# Altium integrated library Altera MAX 3000A.IntLib: 136 symbols (part 1 of 10)
Pins are listed as number, name and electrical type; pins without a type are passive.

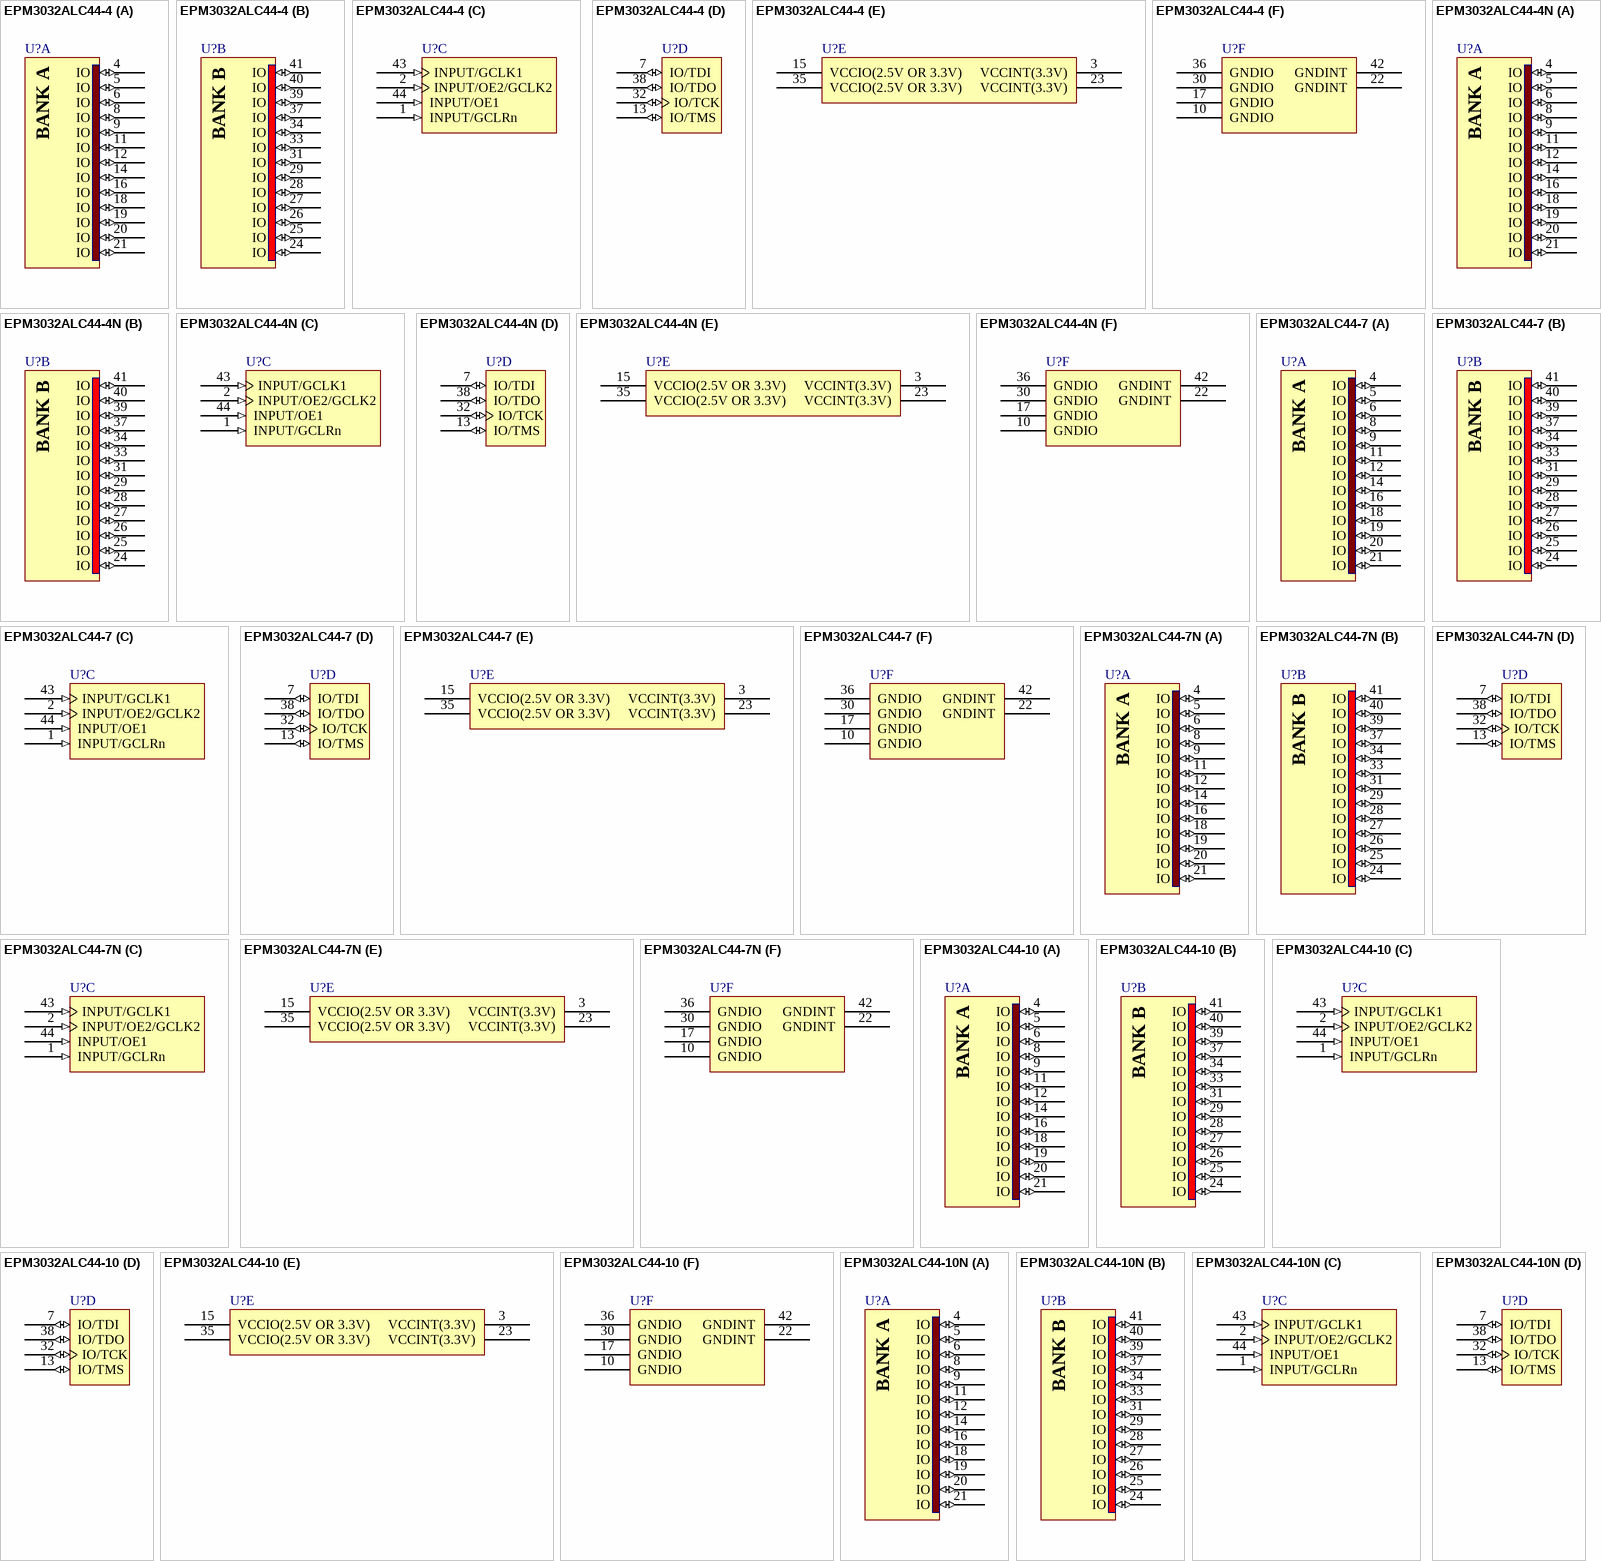
[diagram p0: symbols EPM3032ALC44-4 to EPM3032ALC44-10N]

## EPM3032ALC44-4
designator U?
MAX 3032A 3.3V CPLD, 34 IOs, 44-Pin PLCC, Commercial Temperature, Speed Grade 4; Published: 23-Sep-2002; LatestRevisionDate: 13-Apr-2006; LatestRevisionNote: IPC-7351 Footprint Added.; DatasheetVersion: ver3.5, Jun-2006; PackageVersion: ver14.3, Jul-2006; PackageReference: PLCC44; Publisher: Altium Limited; PackageDescription: 44-Pin Plastic J-Lead Chip Carrier (PLCC44); Supplier 1: Digi-Key; Supplier Part Number 1: 544-1967-ND; Code_JEDEC: MS-018-AC; Code_IPC: PLCC-44; ComponentLink1Description: Manufacturer Link; ComponentLink1URL: http://www.altera.com/products/devices/max3k/m3k-index.html; ComponentLink2Description: Datasheet; ComponentLink2URL: http://www.altera.com/literature/ds/m3000a.pdf; ComponentLink3Description: Packaging Specification; ComponentLink3URL: http://www.altera.com/literature/ds/dspkg.pdf
footprint PLCC44_N (Leaded Chip Carrier, 44-Leads, Body 16.6x16.6mm, Pitch 1.27mm, IPC Medium Density)
footprint PLCC44_L (Leaded Chip Carrier, 44-Leads, Body 16.6x16.6mm, Pitch 1.27mm, IPC High Density)
footprint PLCC44_M (Leaded Chip Carrier, 44-Leads, Body 16.6x16.6mm, Pitch 1.27mm, IPC Low Density)
3D model EPM3032A-PLCC44 (44-Pin Plastic J-Lead Chip Carrier (PLCC44))
signal-integrity model max3ka (MAX 3000A)
part A pins: 4 IO (io), 5 IO (io), 6 IO (io), 8 IO (io), 9 IO (io), 11 IO (io), 12 IO (io), 14 IO (io), 16 IO (io), 18 IO (io), 19 IO (io), 20 IO (io), 21 IO (io)
part B pins: 24 IO (io), 25 IO (io), 26 IO (io), 27 IO (io), 28 IO (io), 29 IO (io), 31 IO (io), 33 IO (io), 34 IO (io), 37 IO (io), 39 IO (io), 40 IO (io), 41 IO (io)
part C pins: 1 INPUT/GCLRn (in), 2 INPUT/OE2/GCLK2 (in), 43 INPUT/GCLK1 (in), 44 INPUT/OE1 (in)
part D pins: 7 IO/TDI (io), 13 IO/TMS (io), 32 IO/TCK (io), 38 IO/TDO (io)
part E pins: 3 VCCINT(3.3V) (power), 15 VCCIO(2.5V OR 3.3V) (power), 23 VCCINT(3.3V) (power), 35 VCCIO(2.5V OR 3.3V) (power)
part F pins: 10 GNDIO (power), 17 GNDIO (power), 22 GNDINT (power), 30 GNDIO (power), 36 GNDIO (power), 42 GNDINT (power)
part A text: BANK A
part B text: BANK B

## EPM3032ALC44-4N
designator U?
MAX 3032A 3.3V CPLD, 34 IOs, 44-Pin PLCC, Commercial Temperature, Speed Grade 4, Pb-Free; Published: 18-Aug-2005; LatestRevisionDate: 13-Apr-2006; LatestRevisionNote: IPC-7351 Footprint Added.; DatasheetVersion: ver3.5, Jun-2006; PackageVersion: ver14.3, Jul-2006; PackageReference: PLCC44; Publisher: Altium Limited; PackageDescription: 44-Pin Plastic J-Lead Chip Carrier (PLCC44); Supplier 1: Digi-Key; Supplier Part Number 1: EPM3032ALC44-4N-ND; Code_JEDEC: MS-018-AC; Code_IPC: PLCC-44; ComponentLink1Description: Manufacturer Link; ComponentLink1URL: http://www.altera.com/products/devices/max3k/m3k-index.html; ComponentLink2Description: Datasheet; ComponentLink2URL: http://www.altera.com/literature/ds/m3000a.pdf; ComponentLink3Description: Packaging Specification; ComponentLink3URL: http://www.altera.com/literature/ds/dspkg.pdf
footprint PLCC44_N (Leaded Chip Carrier, 44-Leads, Body 16.6x16.6mm, Pitch 1.27mm, IPC Medium Density)
footprint PLCC44_L (Leaded Chip Carrier, 44-Leads, Body 16.6x16.6mm, Pitch 1.27mm, IPC High Density)
footprint PLCC44_M (Leaded Chip Carrier, 44-Leads, Body 16.6x16.6mm, Pitch 1.27mm, IPC Low Density)
3D model EPM3032A-PLCC44 (44-Pin Plastic J-Lead Chip Carrier (PLCC44))
signal-integrity model max3ka (MAX 3000A)
part A pins: 4 IO (io), 5 IO (io), 6 IO (io), 8 IO (io), 9 IO (io), 11 IO (io), 12 IO (io), 14 IO (io), 16 IO (io), 18 IO (io), 19 IO (io), 20 IO (io), 21 IO (io)
part B pins: 24 IO (io), 25 IO (io), 26 IO (io), 27 IO (io), 28 IO (io), 29 IO (io), 31 IO (io), 33 IO (io), 34 IO (io), 37 IO (io), 39 IO (io), 40 IO (io), 41 IO (io)
part C pins: 1 INPUT/GCLRn (in), 2 INPUT/OE2/GCLK2 (in), 43 INPUT/GCLK1 (in), 44 INPUT/OE1 (in)
part D pins: 7 IO/TDI (io), 13 IO/TMS (io), 32 IO/TCK (io), 38 IO/TDO (io)
part E pins: 3 VCCINT(3.3V) (power), 15 VCCIO(2.5V OR 3.3V) (power), 23 VCCINT(3.3V) (power), 35 VCCIO(2.5V OR 3.3V) (power)
part F pins: 10 GNDIO (power), 17 GNDIO (power), 22 GNDINT (power), 30 GNDIO (power), 36 GNDIO (power), 42 GNDINT (power)
part A text: BANK A
part B text: BANK B

## EPM3032ALC44-7
designator U?
MAX 3032A 3.3V CPLD, 34 IOs, 44-Pin PLCC, Commercial Temperature, Speed Grade 7; Published: 23-Sep-2002; LatestRevisionDate: 13-Apr-2006; LatestRevisionNote: IPC-7351 Footprint Added.; DatasheetVersion: ver3.5, Jun-2006; PackageVersion: ver14.3, Jul-2006; PackageReference: PLCC44; Publisher: Altium Limited; PackageDescription: 44-Pin Plastic J-Lead Chip Carrier (PLCC44); Supplier 1: Digi-Key; Supplier Part Number 1: EPM3032ALC44-7-ND; Code_JEDEC: MS-018-AC; Code_IPC: PLCC-44; ComponentLink1Description: Manufacturer Link; ComponentLink1URL: http://www.altera.com/products/devices/max3k/m3k-index.html; ComponentLink2Description: Datasheet; ComponentLink2URL: http://www.altera.com/literature/ds/m3000a.pdf; ComponentLink3Description: Packaging Specification; ComponentLink3URL: http://www.altera.com/literature/ds/dspkg.pdf
footprint PLCC44_N (Leaded Chip Carrier, 44-Leads, Body 16.6x16.6mm, Pitch 1.27mm, IPC Medium Density)
footprint PLCC44_L (Leaded Chip Carrier, 44-Leads, Body 16.6x16.6mm, Pitch 1.27mm, IPC High Density)
footprint PLCC44_M (Leaded Chip Carrier, 44-Leads, Body 16.6x16.6mm, Pitch 1.27mm, IPC Low Density)
3D model EPM3032A-PLCC44 (44-Pin Plastic J-Lead Chip Carrier (PLCC44))
signal-integrity model max3ka (MAX 3000A)
part A pins: 4 IO (io), 5 IO (io), 6 IO (io), 8 IO (io), 9 IO (io), 11 IO (io), 12 IO (io), 14 IO (io), 16 IO (io), 18 IO (io), 19 IO (io), 20 IO (io), 21 IO (io)
part B pins: 24 IO (io), 25 IO (io), 26 IO (io), 27 IO (io), 28 IO (io), 29 IO (io), 31 IO (io), 33 IO (io), 34 IO (io), 37 IO (io), 39 IO (io), 40 IO (io), 41 IO (io)
part C pins: 1 INPUT/GCLRn (in), 2 INPUT/OE2/GCLK2 (in), 43 INPUT/GCLK1 (in), 44 INPUT/OE1 (in)
part D pins: 7 IO/TDI (io), 13 IO/TMS (io), 32 IO/TCK (io), 38 IO/TDO (io)
part E pins: 3 VCCINT(3.3V) (power), 15 VCCIO(2.5V OR 3.3V) (power), 23 VCCINT(3.3V) (power), 35 VCCIO(2.5V OR 3.3V) (power)
part F pins: 10 GNDIO (power), 17 GNDIO (power), 22 GNDINT (power), 30 GNDIO (power), 36 GNDIO (power), 42 GNDINT (power)
part A text: BANK A
part B text: BANK B

## EPM3032ALC44-7N
designator U?
MAX 3032A 3.3V CPLD, 34 IOs, 44-Pin PLCC, Commercial Temperature, Speed Grade 7, Pb-Free; Published: 18-Aug-2005; LatestRevisionDate: 13-Apr-2006; LatestRevisionNote: IPC-7351 Footprint Added.; DatasheetVersion: ver3.5, Jun-2006; PackageVersion: ver14.3, Jul-2006; PackageReference: PLCC44; Publisher: Altium Limited; PackageDescription: 44-Pin Plastic J-Lead Chip Carrier (PLCC44); Supplier 1: Digi-Key; Supplier Part Number 1: EPM3032ALC44-7N-ND; Code_JEDEC: MS-018-AC; Code_IPC: PLCC-44; ComponentLink1Description: Manufacturer Link; ComponentLink1URL: http://www.altera.com/products/devices/max3k/m3k-index.html; ComponentLink2Description: Datasheet; ComponentLink2URL: http://www.altera.com/literature/ds/m3000a.pdf; ComponentLink3Description: Packaging Specification; ComponentLink3URL: http://www.altera.com/literature/ds/dspkg.pdf
footprint PLCC44_N (Leaded Chip Carrier, 44-Leads, Body 16.6x16.6mm, Pitch 1.27mm, IPC Medium Density)
footprint PLCC44_L (Leaded Chip Carrier, 44-Leads, Body 16.6x16.6mm, Pitch 1.27mm, IPC High Density)
footprint PLCC44_M (Leaded Chip Carrier, 44-Leads, Body 16.6x16.6mm, Pitch 1.27mm, IPC Low Density)
3D model EPM3032A-PLCC44 (44-Pin Plastic J-Lead Chip Carrier (PLCC44))
signal-integrity model max3ka (MAX 3000A)
part A pins: 4 IO (io), 5 IO (io), 6 IO (io), 8 IO (io), 9 IO (io), 11 IO (io), 12 IO (io), 14 IO (io), 16 IO (io), 18 IO (io), 19 IO (io), 20 IO (io), 21 IO (io)
part B pins: 24 IO (io), 25 IO (io), 26 IO (io), 27 IO (io), 28 IO (io), 29 IO (io), 31 IO (io), 33 IO (io), 34 IO (io), 37 IO (io), 39 IO (io), 40 IO (io), 41 IO (io)
part C pins: 1 INPUT/GCLRn (in), 2 INPUT/OE2/GCLK2 (in), 43 INPUT/GCLK1 (in), 44 INPUT/OE1 (in)
part D pins: 7 IO/TDI (io), 13 IO/TMS (io), 32 IO/TCK (io), 38 IO/TDO (io)
part E pins: 3 VCCINT(3.3V) (power), 15 VCCIO(2.5V OR 3.3V) (power), 23 VCCINT(3.3V) (power), 35 VCCIO(2.5V OR 3.3V) (power)
part F pins: 10 GNDIO (power), 17 GNDIO (power), 22 GNDINT (power), 30 GNDIO (power), 36 GNDIO (power), 42 GNDINT (power)
part A text: BANK A
part B text: BANK B

## EPM3032ALC44-10
designator U?
MAX 3032A 3.3V CPLD, 34 IOs, 44-Pin PLCC, Commercial Temperature, Speed Grade 10; Published: 23-Sep-2002; LatestRevisionDate: 13-Apr-2006; LatestRevisionNote: IPC-7351 Footprint Added.; DatasheetVersion: ver3.5, Jun-2006; PackageVersion: ver14.3, Jul-2006; PackageReference: PLCC44; Publisher: Altium Limited; PackageDescription: 44-Pin Plastic J-Lead Chip Carrier (PLCC44); Supplier 1: Digi-Key; Supplier Part Number 1: 544-1150-5-ND; Code_JEDEC: MS-018-AC; Code_IPC: PLCC-44; ComponentLink1Description: Manufacturer Link; ComponentLink1URL: http://www.altera.com/products/devices/max3k/m3k-index.html; ComponentLink2Description: Datasheet; ComponentLink2URL: http://www.altera.com/literature/ds/m3000a.pdf; ComponentLink3Description: Packaging Specification; ComponentLink3URL: http://www.altera.com/literature/ds/dspkg.pdf
footprint PLCC44_N (Leaded Chip Carrier, 44-Leads, Body 16.6x16.6mm, Pitch 1.27mm, IPC Medium Density)
footprint PLCC44_L (Leaded Chip Carrier, 44-Leads, Body 16.6x16.6mm, Pitch 1.27mm, IPC High Density)
footprint PLCC44_M (Leaded Chip Carrier, 44-Leads, Body 16.6x16.6mm, Pitch 1.27mm, IPC Low Density)
3D model EPM3032A-PLCC44 (44-Pin Plastic J-Lead Chip Carrier (PLCC44))
signal-integrity model max3ka (MAX 3000A)
part A pins: 4 IO (io), 5 IO (io), 6 IO (io), 8 IO (io), 9 IO (io), 11 IO (io), 12 IO (io), 14 IO (io), 16 IO (io), 18 IO (io), 19 IO (io), 20 IO (io), 21 IO (io)
part B pins: 24 IO (io), 25 IO (io), 26 IO (io), 27 IO (io), 28 IO (io), 29 IO (io), 31 IO (io), 33 IO (io), 34 IO (io), 37 IO (io), 39 IO (io), 40 IO (io), 41 IO (io)
part C pins: 1 INPUT/GCLRn (in), 2 INPUT/OE2/GCLK2 (in), 43 INPUT/GCLK1 (in), 44 INPUT/OE1 (in)
part D pins: 7 IO/TDI (io), 13 IO/TMS (io), 32 IO/TCK (io), 38 IO/TDO (io)
part E pins: 3 VCCINT(3.3V) (power), 15 VCCIO(2.5V OR 3.3V) (power), 23 VCCINT(3.3V) (power), 35 VCCIO(2.5V OR 3.3V) (power)
part F pins: 10 GNDIO (power), 17 GNDIO (power), 22 GNDINT (power), 30 GNDIO (power), 36 GNDIO (power), 42 GNDINT (power)
part A text: BANK A
part B text: BANK B

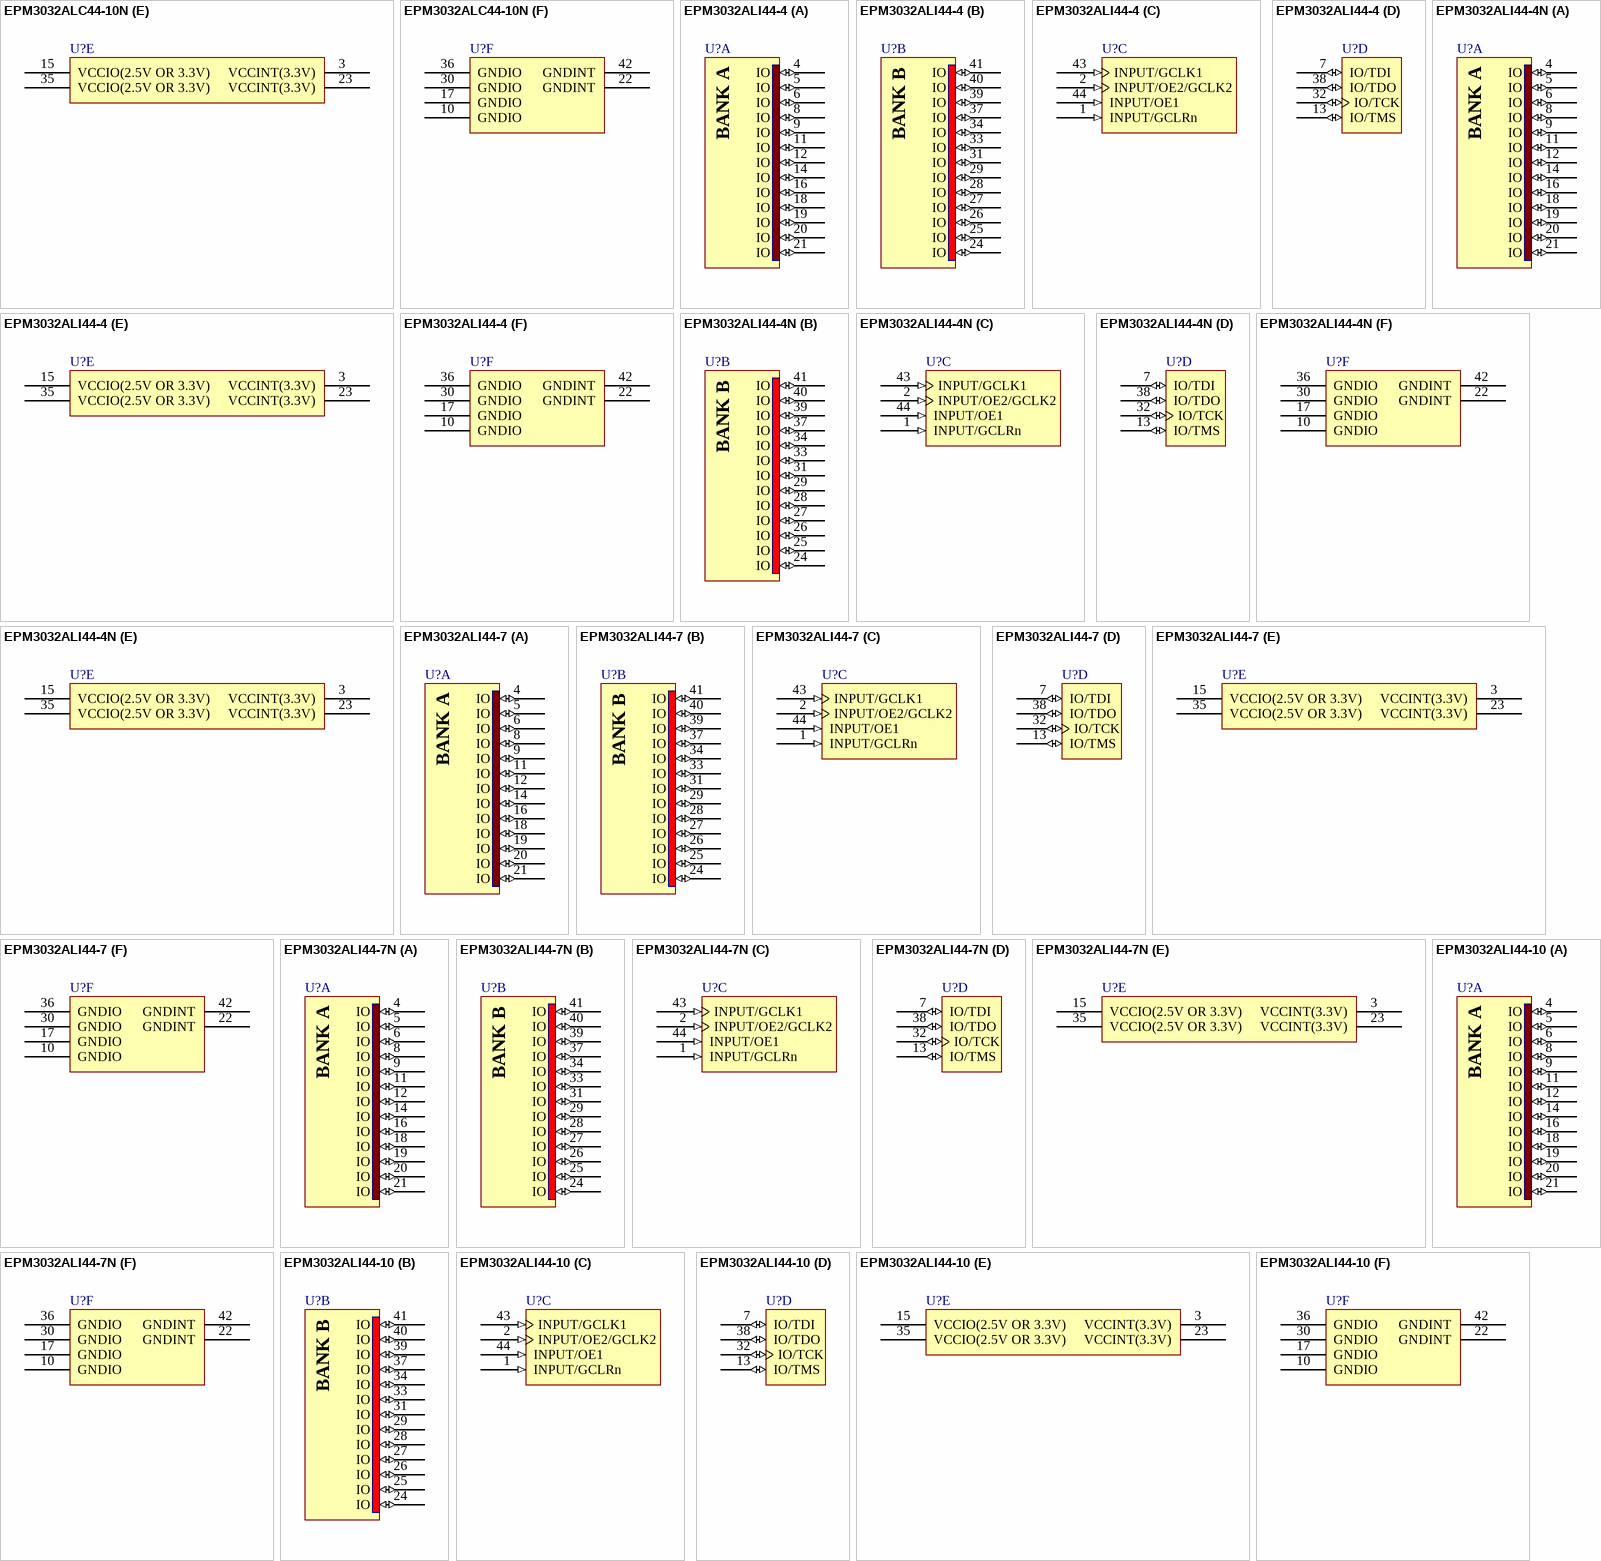
[diagram p1: symbols EPM3032ALC44-10N to EPM3032ALI44-10]

## EPM3032ALC44-10N
designator U?
MAX 3032A 3.3V CPLD, 34 IOs, 44-Pin PLCC, Commercial Temperature, Speed Grade 10, Pb-Free; Published: 18-Aug-2005; LatestRevisionDate: 13-Apr-2006; LatestRevisionNote: IPC-7351 Footprint Added.; DatasheetVersion: ver3.5, Jun-2006; PackageVersion: ver14.3, Jul-2006; PackageReference: PLCC44; Publisher: Altium Limited; PackageDescription: 44-Pin Plastic J-Lead Chip Carrier (PLCC44); Supplier 1: Digi-Key; Supplier Part Number 1: 544-1966-ND; Supplier 2: Farnell; Supplier Part Number 2: 1637250; Code_JEDEC: MS-018-AC; Code_IPC: PLCC-44; ComponentLink1Description: Manufacturer Link; ComponentLink1URL: http://www.altera.com/products/devices/max3k/m3k-index.html; ComponentLink2Description: Datasheet; ComponentLink2URL: http://www.altera.com/literature/ds/m3000a.pdf; ComponentLink3Description: Packaging Specification; ComponentLink3URL: http://www.altera.com/literature/ds/dspkg.pdf
footprint PLCC44_N (Leaded Chip Carrier, 44-Leads, Body 16.6x16.6mm, Pitch 1.27mm, IPC Medium Density)
footprint PLCC44_L (Leaded Chip Carrier, 44-Leads, Body 16.6x16.6mm, Pitch 1.27mm, IPC High Density)
footprint PLCC44_M (Leaded Chip Carrier, 44-Leads, Body 16.6x16.6mm, Pitch 1.27mm, IPC Low Density)
3D model EPM3032A-PLCC44 (44-Pin Plastic J-Lead Chip Carrier (PLCC44))
signal-integrity model max3ka (MAX 3000A)
part A pins: 4 IO (io), 5 IO (io), 6 IO (io), 8 IO (io), 9 IO (io), 11 IO (io), 12 IO (io), 14 IO (io), 16 IO (io), 18 IO (io), 19 IO (io), 20 IO (io), 21 IO (io)
part B pins: 24 IO (io), 25 IO (io), 26 IO (io), 27 IO (io), 28 IO (io), 29 IO (io), 31 IO (io), 33 IO (io), 34 IO (io), 37 IO (io), 39 IO (io), 40 IO (io), 41 IO (io)
part C pins: 1 INPUT/GCLRn (in), 2 INPUT/OE2/GCLK2 (in), 43 INPUT/GCLK1 (in), 44 INPUT/OE1 (in)
part D pins: 7 IO/TDI (io), 13 IO/TMS (io), 32 IO/TCK (io), 38 IO/TDO (io)
part E pins: 3 VCCINT(3.3V) (power), 15 VCCIO(2.5V OR 3.3V) (power), 23 VCCINT(3.3V) (power), 35 VCCIO(2.5V OR 3.3V) (power)
part F pins: 10 GNDIO (power), 17 GNDIO (power), 22 GNDINT (power), 30 GNDIO (power), 36 GNDIO (power), 42 GNDINT (power)
part A text: BANK A
part B text: BANK B

## EPM3032ALI44-4
designator U?
MAX 3032A 3.3V CPLD, 34 IOs, 44-Pin PLCC, Industrial Temperature, Speed Grade 4; Published: 17-Sep-2003; LatestRevisionDate: 13-Apr-2006; LatestRevisionNote: IPC-7351 Footprint Added.; DatasheetVersion: ver3.5, Jun-2006; PackageVersion: ver14.3, Jul-2006; PackageReference: PLCC44; Publisher: Altium Limited; PackageDescription: 44-Pin Plastic J-Lead Chip Carrier (PLCC44); Code_JEDEC: MS-018-AC; Code_IPC: PLCC-44; ComponentLink1Description: Manufacturer Link; ComponentLink1URL: http://www.altera.com/products/devices/max3k/m3k-index.html; ComponentLink2Description: Datasheet; ComponentLink2URL: http://www.altera.com/literature/ds/m3000a.pdf; ComponentLink3Description: Packaging Specification; ComponentLink3URL: http://www.altera.com/literature/ds/dspkg.pdf
footprint PLCC44_N (Leaded Chip Carrier, 44-Leads, Body 16.6x16.6mm, Pitch 1.27mm, IPC Medium Density)
footprint PLCC44_L (Leaded Chip Carrier, 44-Leads, Body 16.6x16.6mm, Pitch 1.27mm, IPC High Density)
footprint PLCC44_M (Leaded Chip Carrier, 44-Leads, Body 16.6x16.6mm, Pitch 1.27mm, IPC Low Density)
3D model EPM3032A-PLCC44 (44-Pin Plastic J-Lead Chip Carrier (PLCC44))
signal-integrity model max3ka (MAX 3000A)
part A pins: 4 IO (io), 5 IO (io), 6 IO (io), 8 IO (io), 9 IO (io), 11 IO (io), 12 IO (io), 14 IO (io), 16 IO (io), 18 IO (io), 19 IO (io), 20 IO (io), 21 IO (io)
part B pins: 24 IO (io), 25 IO (io), 26 IO (io), 27 IO (io), 28 IO (io), 29 IO (io), 31 IO (io), 33 IO (io), 34 IO (io), 37 IO (io), 39 IO (io), 40 IO (io), 41 IO (io)
part C pins: 1 INPUT/GCLRn (in), 2 INPUT/OE2/GCLK2 (in), 43 INPUT/GCLK1 (in), 44 INPUT/OE1 (in)
part D pins: 7 IO/TDI (io), 13 IO/TMS (io), 32 IO/TCK (io), 38 IO/TDO (io)
part E pins: 3 VCCINT(3.3V) (power), 15 VCCIO(2.5V OR 3.3V) (power), 23 VCCINT(3.3V) (power), 35 VCCIO(2.5V OR 3.3V) (power)
part F pins: 10 GNDIO (power), 17 GNDIO (power), 22 GNDINT (power), 30 GNDIO (power), 36 GNDIO (power), 42 GNDINT (power)
part A text: BANK A
part B text: BANK B

## EPM3032ALI44-4N
designator U?
MAX 3032A 3.3V CPLD, 34 IOs, 44-Pin PLCC, Industrial Temperature, Speed Grade 4, Pb-Free; Published: 18-Aug-2005; LatestRevisionDate: 13-Apr-2006; LatestRevisionNote: IPC-7351 Footprint Added.; DatasheetVersion: ver3.5, Jun-2006; PackageVersion: ver14.3, Jul-2006; PackageReference: PLCC44; Publisher: Altium Limited; PackageDescription: 44-Pin Plastic J-Lead Chip Carrier (PLCC44); Code_JEDEC: MS-018-AC; Code_IPC: PLCC-44; ComponentLink1Description: Manufacturer Link; ComponentLink1URL: http://www.altera.com/products/devices/max3k/m3k-index.html; ComponentLink2Description: Datasheet; ComponentLink2URL: http://www.altera.com/literature/ds/m3000a.pdf; ComponentLink3Description: Packaging Specification; ComponentLink3URL: http://www.altera.com/literature/ds/dspkg.pdf
footprint PLCC44_N (Leaded Chip Carrier, 44-Leads, Body 16.6x16.6mm, Pitch 1.27mm, IPC Medium Density)
footprint PLCC44_L (Leaded Chip Carrier, 44-Leads, Body 16.6x16.6mm, Pitch 1.27mm, IPC High Density)
footprint PLCC44_M (Leaded Chip Carrier, 44-Leads, Body 16.6x16.6mm, Pitch 1.27mm, IPC Low Density)
3D model EPM3032A-PLCC44 (44-Pin Plastic J-Lead Chip Carrier (PLCC44))
signal-integrity model max3ka (MAX 3000A)
part A pins: 4 IO (io), 5 IO (io), 6 IO (io), 8 IO (io), 9 IO (io), 11 IO (io), 12 IO (io), 14 IO (io), 16 IO (io), 18 IO (io), 19 IO (io), 20 IO (io), 21 IO (io)
part B pins: 24 IO (io), 25 IO (io), 26 IO (io), 27 IO (io), 28 IO (io), 29 IO (io), 31 IO (io), 33 IO (io), 34 IO (io), 37 IO (io), 39 IO (io), 40 IO (io), 41 IO (io)
part C pins: 1 INPUT/GCLRn (in), 2 INPUT/OE2/GCLK2 (in), 43 INPUT/GCLK1 (in), 44 INPUT/OE1 (in)
part D pins: 7 IO/TDI (io), 13 IO/TMS (io), 32 IO/TCK (io), 38 IO/TDO (io)
part E pins: 3 VCCINT(3.3V) (power), 15 VCCIO(2.5V OR 3.3V) (power), 23 VCCINT(3.3V) (power), 35 VCCIO(2.5V OR 3.3V) (power)
part F pins: 10 GNDIO (power), 17 GNDIO (power), 22 GNDINT (power), 30 GNDIO (power), 36 GNDIO (power), 42 GNDINT (power)
part A text: BANK A
part B text: BANK B

## EPM3032ALI44-7
designator U?
MAX 3032A 3.3V CPLD, 34 IOs, 44-Pin PLCC, Industrial Temperature, Speed Grade 7; Published: 17-Sep-2003; LatestRevisionDate: 13-Apr-2006; LatestRevisionNote: IPC-7351 Footprint Added.; DatasheetVersion: ver3.5, Jun-2006; PackageVersion: ver14.3, Jul-2006; PackageReference: PLCC44; Publisher: Altium Limited; PackageDescription: 44-Pin Plastic J-Lead Chip Carrier (PLCC44); Code_JEDEC: MS-018-AC; Code_IPC: PLCC-44; ComponentLink1Description: Manufacturer Link; ComponentLink1URL: http://www.altera.com/products/devices/max3k/m3k-index.html; ComponentLink2Description: Datasheet; ComponentLink2URL: http://www.altera.com/literature/ds/m3000a.pdf; ComponentLink3Description: Packaging Specification; ComponentLink3URL: http://www.altera.com/literature/ds/dspkg.pdf
footprint PLCC44_N (Leaded Chip Carrier, 44-Leads, Body 16.6x16.6mm, Pitch 1.27mm, IPC Medium Density)
footprint PLCC44_L (Leaded Chip Carrier, 44-Leads, Body 16.6x16.6mm, Pitch 1.27mm, IPC High Density)
footprint PLCC44_M (Leaded Chip Carrier, 44-Leads, Body 16.6x16.6mm, Pitch 1.27mm, IPC Low Density)
3D model EPM3032A-PLCC44 (44-Pin Plastic J-Lead Chip Carrier (PLCC44))
signal-integrity model max3ka (MAX 3000A)
part A pins: 4 IO (io), 5 IO (io), 6 IO (io), 8 IO (io), 9 IO (io), 11 IO (io), 12 IO (io), 14 IO (io), 16 IO (io), 18 IO (io), 19 IO (io), 20 IO (io), 21 IO (io)
part B pins: 24 IO (io), 25 IO (io), 26 IO (io), 27 IO (io), 28 IO (io), 29 IO (io), 31 IO (io), 33 IO (io), 34 IO (io), 37 IO (io), 39 IO (io), 40 IO (io), 41 IO (io)
part C pins: 1 INPUT/GCLRn (in), 2 INPUT/OE2/GCLK2 (in), 43 INPUT/GCLK1 (in), 44 INPUT/OE1 (in)
part D pins: 7 IO/TDI (io), 13 IO/TMS (io), 32 IO/TCK (io), 38 IO/TDO (io)
part E pins: 3 VCCINT(3.3V) (power), 15 VCCIO(2.5V OR 3.3V) (power), 23 VCCINT(3.3V) (power), 35 VCCIO(2.5V OR 3.3V) (power)
part F pins: 10 GNDIO (power), 17 GNDIO (power), 22 GNDINT (power), 30 GNDIO (power), 36 GNDIO (power), 42 GNDINT (power)
part A text: BANK A
part B text: BANK B

## EPM3032ALI44-7N
designator U?
MAX 3032A 3.3V CPLD, 34 IOs, 44-Pin PLCC, Industrial Temperature, Speed Grade 7, Pb-Free; Published: 18-Aug-2005; LatestRevisionDate: 13-Apr-2006; LatestRevisionNote: IPC-7351 Footprint Added.; DatasheetVersion: ver3.5, Jun-2006; PackageVersion: ver14.3, Jul-2006; PackageReference: PLCC44; Publisher: Altium Limited; PackageDescription: 44-Pin Plastic J-Lead Chip Carrier (PLCC44); Code_JEDEC: MS-018-AC; Code_IPC: PLCC-44; ComponentLink1Description: Manufacturer Link; ComponentLink1URL: http://www.altera.com/products/devices/max3k/m3k-index.html; ComponentLink2Description: Datasheet; ComponentLink2URL: http://www.altera.com/literature/ds/m3000a.pdf; ComponentLink3Description: Packaging Specification; ComponentLink3URL: http://www.altera.com/literature/ds/dspkg.pdf
footprint PLCC44_N (Leaded Chip Carrier, 44-Leads, Body 16.6x16.6mm, Pitch 1.27mm, IPC Medium Density)
footprint PLCC44_L (Leaded Chip Carrier, 44-Leads, Body 16.6x16.6mm, Pitch 1.27mm, IPC High Density)
footprint PLCC44_M (Leaded Chip Carrier, 44-Leads, Body 16.6x16.6mm, Pitch 1.27mm, IPC Low Density)
3D model EPM3032A-PLCC44 (44-Pin Plastic J-Lead Chip Carrier (PLCC44))
signal-integrity model max3ka (MAX 3000A)
part A pins: 4 IO (io), 5 IO (io), 6 IO (io), 8 IO (io), 9 IO (io), 11 IO (io), 12 IO (io), 14 IO (io), 16 IO (io), 18 IO (io), 19 IO (io), 20 IO (io), 21 IO (io)
part B pins: 24 IO (io), 25 IO (io), 26 IO (io), 27 IO (io), 28 IO (io), 29 IO (io), 31 IO (io), 33 IO (io), 34 IO (io), 37 IO (io), 39 IO (io), 40 IO (io), 41 IO (io)
part C pins: 1 INPUT/GCLRn (in), 2 INPUT/OE2/GCLK2 (in), 43 INPUT/GCLK1 (in), 44 INPUT/OE1 (in)
part D pins: 7 IO/TDI (io), 13 IO/TMS (io), 32 IO/TCK (io), 38 IO/TDO (io)
part E pins: 3 VCCINT(3.3V) (power), 15 VCCIO(2.5V OR 3.3V) (power), 23 VCCINT(3.3V) (power), 35 VCCIO(2.5V OR 3.3V) (power)
part F pins: 10 GNDIO (power), 17 GNDIO (power), 22 GNDINT (power), 30 GNDIO (power), 36 GNDIO (power), 42 GNDINT (power)
part A text: BANK A
part B text: BANK B

## EPM3032ALI44-10
designator U?
MAX 3032A 3.3V CPLD, 34 IOs, 44-Pin PLCC, Industrial Temperature, Speed Grade 10; Published: 17-Sep-2003; LatestRevisionDate: 13-Apr-2006; LatestRevisionNote: IPC-7351 Footprint Added.; DatasheetVersion: ver3.5, Jun-2006; PackageVersion: ver14.3, Jul-2006; PackageReference: PLCC44; Publisher: Altium Limited; PackageDescription: 44-Pin Plastic J-Lead Chip Carrier (PLCC44); Supplier 1: Digi-Key; Supplier Part Number 1: EPM3032ALI44-10-ND; Code_JEDEC: MS-018-AC; Code_IPC: PLCC-44; ComponentLink1Description: Manufacturer Link; ComponentLink1URL: http://www.altera.com/products/devices/max3k/m3k-index.html; ComponentLink2Description: Datasheet; ComponentLink2URL: http://www.altera.com/literature/ds/m3000a.pdf; ComponentLink3Description: Packaging Specification; ComponentLink3URL: http://www.altera.com/literature/ds/dspkg.pdf
footprint PLCC44_N (Leaded Chip Carrier, 44-Leads, Body 16.6x16.6mm, Pitch 1.27mm, IPC Medium Density)
footprint PLCC44_L (Leaded Chip Carrier, 44-Leads, Body 16.6x16.6mm, Pitch 1.27mm, IPC High Density)
footprint PLCC44_M (Leaded Chip Carrier, 44-Leads, Body 16.6x16.6mm, Pitch 1.27mm, IPC Low Density)
3D model EPM3032A-PLCC44 (44-Pin Plastic J-Lead Chip Carrier (PLCC44))
signal-integrity model max3ka (MAX 3000A)
part A pins: 4 IO (io), 5 IO (io), 6 IO (io), 8 IO (io), 9 IO (io), 11 IO (io), 12 IO (io), 14 IO (io), 16 IO (io), 18 IO (io), 19 IO (io), 20 IO (io), 21 IO (io)
part B pins: 24 IO (io), 25 IO (io), 26 IO (io), 27 IO (io), 28 IO (io), 29 IO (io), 31 IO (io), 33 IO (io), 34 IO (io), 37 IO (io), 39 IO (io), 40 IO (io), 41 IO (io)
part C pins: 1 INPUT/GCLRn (in), 2 INPUT/OE2/GCLK2 (in), 43 INPUT/GCLK1 (in), 44 INPUT/OE1 (in)
part D pins: 7 IO/TDI (io), 13 IO/TMS (io), 32 IO/TCK (io), 38 IO/TDO (io)
part E pins: 3 VCCINT(3.3V) (power), 15 VCCIO(2.5V OR 3.3V) (power), 23 VCCINT(3.3V) (power), 35 VCCIO(2.5V OR 3.3V) (power)
part F pins: 10 GNDIO (power), 17 GNDIO (power), 22 GNDINT (power), 30 GNDIO (power), 36 GNDIO (power), 42 GNDINT (power)
part A text: BANK A
part B text: BANK B

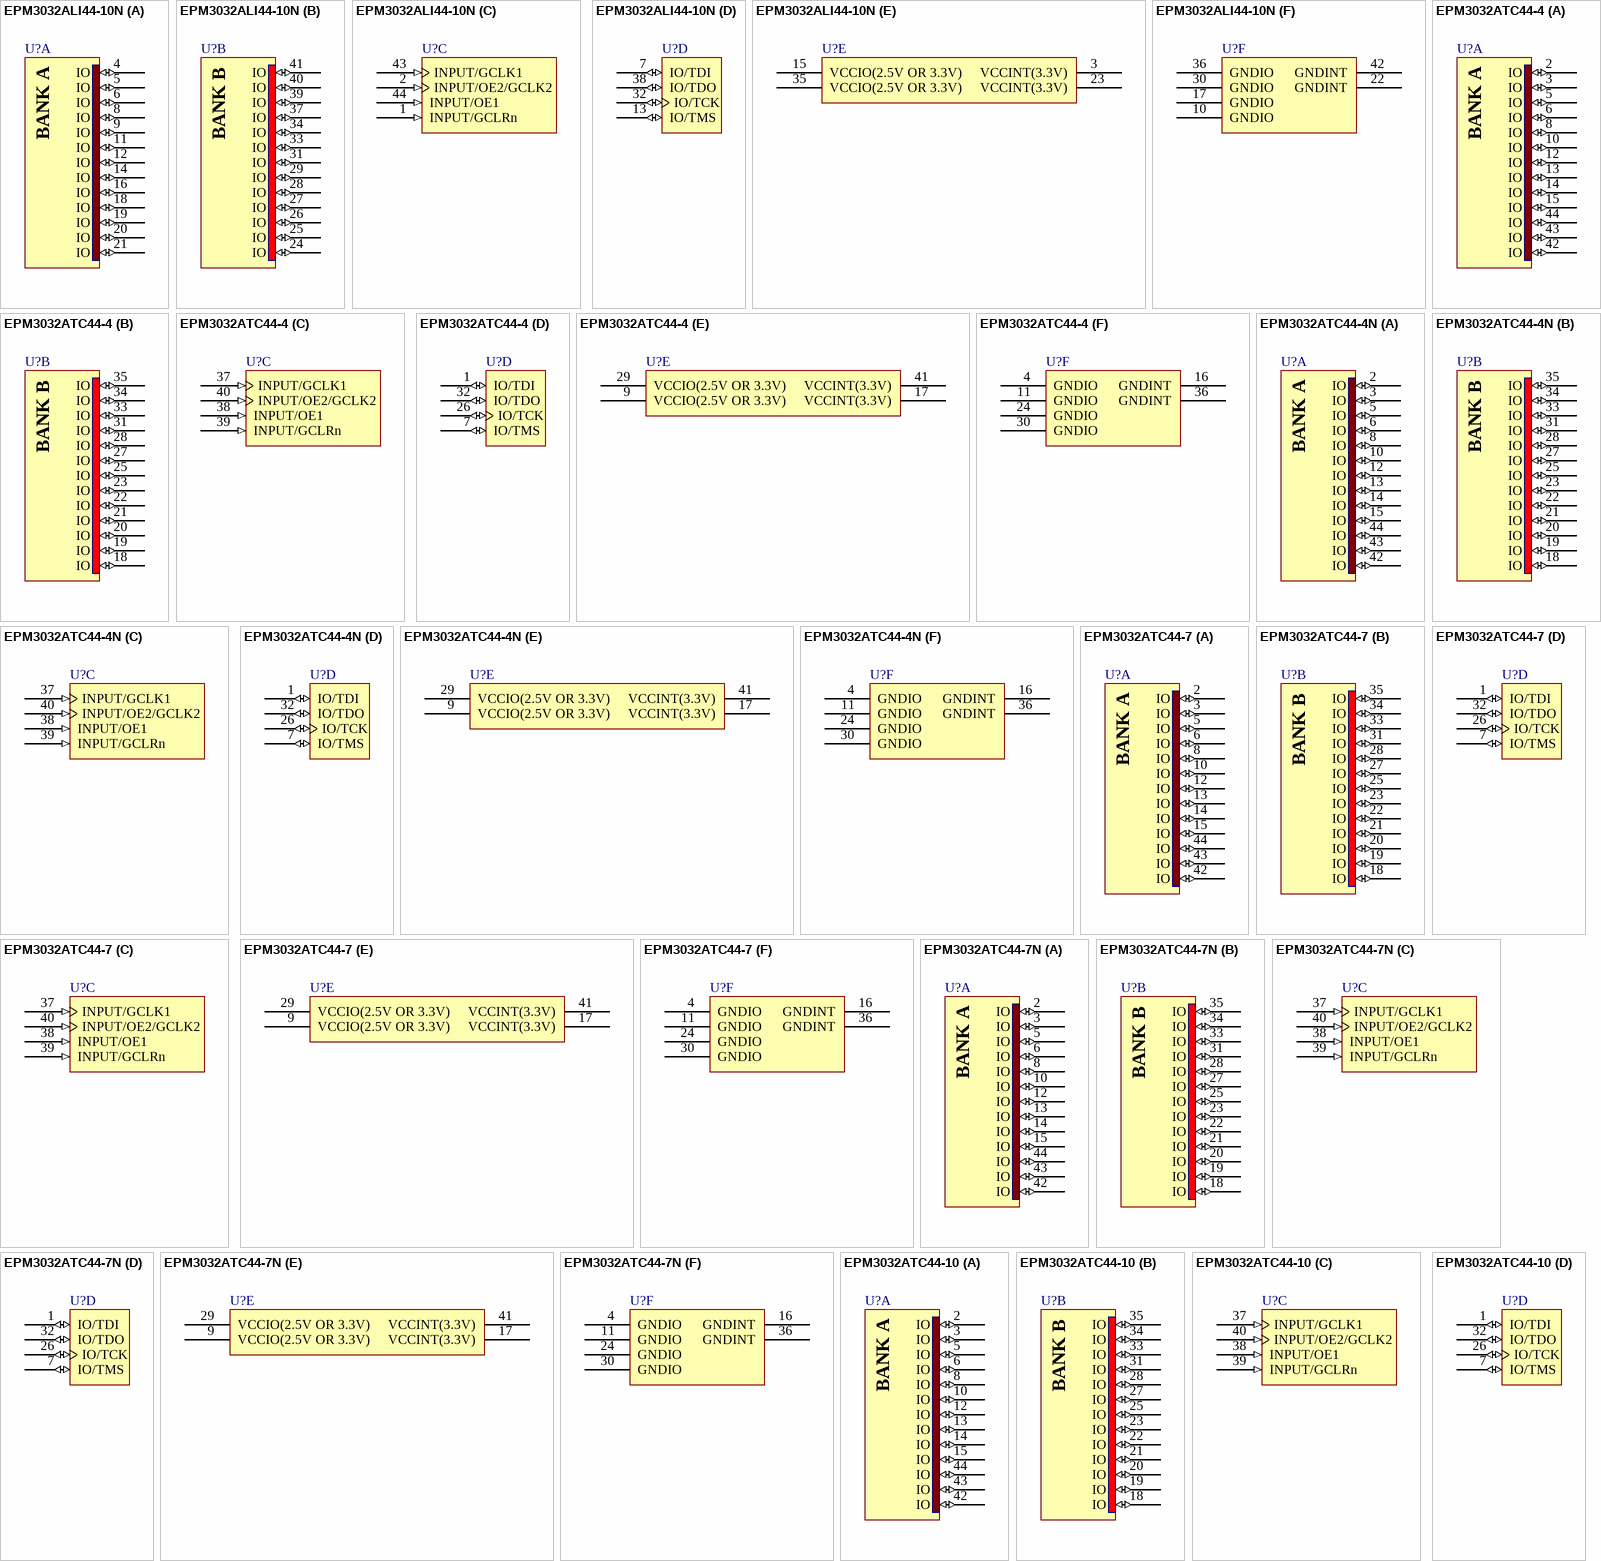
[diagram p2: symbols EPM3032ALI44-10N to EPM3032ATC44-10]

## EPM3032ALI44-10N
designator U?
MAX 3032A 3.3V CPLD, 34 IOs, 44-Pin PLCC, Industrial Temperature, Speed Grade 10, Pb-Free; Published: 18-Aug-2005; LatestRevisionDate: 13-Apr-2006; LatestRevisionNote: IPC-7351 Footprint Added.; DatasheetVersion: ver3.5, Jun-2006; PackageVersion: ver14.3, Jul-2006; PackageReference: PLCC44; Publisher: Altium Limited; PackageDescription: 44-Pin Plastic J-Lead Chip Carrier (PLCC44); Supplier 1: Digi-Key; Supplier Part Number 1: EPM3032ALI44-10N-ND; Code_JEDEC: MS-018-AC; Code_IPC: PLCC-44; ComponentLink1Description: Manufacturer Link; ComponentLink1URL: http://www.altera.com/products/devices/max3k/m3k-index.html; ComponentLink2Description: Datasheet; ComponentLink2URL: http://www.altera.com/literature/ds/m3000a.pdf; ComponentLink3Description: Packaging Specification; ComponentLink3URL: http://www.altera.com/literature/ds/dspkg.pdf
footprint PLCC44_N (Leaded Chip Carrier, 44-Leads, Body 16.6x16.6mm, Pitch 1.27mm, IPC Medium Density)
footprint PLCC44_L (Leaded Chip Carrier, 44-Leads, Body 16.6x16.6mm, Pitch 1.27mm, IPC High Density)
footprint PLCC44_M (Leaded Chip Carrier, 44-Leads, Body 16.6x16.6mm, Pitch 1.27mm, IPC Low Density)
3D model EPM3032A-PLCC44 (44-Pin Plastic J-Lead Chip Carrier (PLCC44))
signal-integrity model max3ka (MAX 3000A)
part A pins: 4 IO (io), 5 IO (io), 6 IO (io), 8 IO (io), 9 IO (io), 11 IO (io), 12 IO (io), 14 IO (io), 16 IO (io), 18 IO (io), 19 IO (io), 20 IO (io), 21 IO (io)
part B pins: 24 IO (io), 25 IO (io), 26 IO (io), 27 IO (io), 28 IO (io), 29 IO (io), 31 IO (io), 33 IO (io), 34 IO (io), 37 IO (io), 39 IO (io), 40 IO (io), 41 IO (io)
part C pins: 1 INPUT/GCLRn (in), 2 INPUT/OE2/GCLK2 (in), 43 INPUT/GCLK1 (in), 44 INPUT/OE1 (in)
part D pins: 7 IO/TDI (io), 13 IO/TMS (io), 32 IO/TCK (io), 38 IO/TDO (io)
part E pins: 3 VCCINT(3.3V) (power), 15 VCCIO(2.5V OR 3.3V) (power), 23 VCCINT(3.3V) (power), 35 VCCIO(2.5V OR 3.3V) (power)
part F pins: 10 GNDIO (power), 17 GNDIO (power), 22 GNDINT (power), 30 GNDIO (power), 36 GNDIO (power), 42 GNDINT (power)
part A text: BANK A
part B text: BANK B

## EPM3032ATC44-4
designator U?
MAX 3032A 3.3V CPLD, 34 IOs, 44-Pin Plastic TFQP, Commercial Temperature, Speed Grade 4; Published: 23-Sep-2002; LatestRevisionDate: 13-Apr-2006; LatestRevisionNote: IPC-7351 Footprint Added.; DatasheetVersion: ver3.5, Jun-2006; PackageVersion: ver14.3, Jul-2006; PackageReference: TQFP44; Publisher: Altium Limited; PackageDescription: 44-Pin Plastic Thin Quad Flat Pack (TFQP44); Supplier 1: Digi-Key; Supplier Part Number 1: 544-1152-ND; Code_JEDEC: MS-026-ACB; ComponentLink1Description: Manufacturer Link; ComponentLink1URL: http://www.altera.com/products/devices/max3k/m3k-index.html; ComponentLink2Description: Datasheet; ComponentLink2URL: http://www.altera.com/literature/ds/m3000a.pdf; ComponentLink3Description: Packaging Specification; ComponentLink3URL: http://www.altera.com/literature/ds/dspkg.pdf
footprint TQFP44_N (Thin QFP, 44-Leads, Body 10x10mm, Pitch 0.8mm, IPC Medium Density)
footprint TQFP44_L (Thin QFP, 44-Leads, Body 10x10mm, Pitch 0.8mm, IPC High Density)
footprint TQFP44_M (Thin QFP, 44-Leads, Body 10x10mm, Pitch 0.8mm, IPC Low Density)
3D model EPM3032A-TQFP44 (44-Pin Plastic Thin Quad Flat Pack (TFQP44))
signal-integrity model max3ka (MAX 3000A)
part A pins: 2 IO (io), 3 IO (io), 5 IO (io), 6 IO (io), 8 IO (io), 10 IO (io), 12 IO (io), 13 IO (io), 14 IO (io), 15 IO (io), 42 IO (io), 43 IO (io), 44 IO (io)
part B pins: 18 IO (io), 19 IO (io), 20 IO (io), 21 IO (io), 22 IO (io), 23 IO (io), 25 IO (io), 27 IO (io), 28 IO (io), 31 IO (io), 33 IO (io), 34 IO (io), 35 IO (io)
part C pins: 37 INPUT/GCLK1 (in), 38 INPUT/OE1 (in), 39 INPUT/GCLRn (in), 40 INPUT/OE2/GCLK2 (in)
part D pins: 1 IO/TDI (io), 7 IO/TMS (io), 26 IO/TCK (io), 32 IO/TDO (io)
part E pins: 9 VCCIO(2.5V OR 3.3V) (power), 17 VCCINT(3.3V) (power), 29 VCCIO(2.5V OR 3.3V) (power), 41 VCCINT(3.3V) (power)
part F pins: 4 GNDIO (power), 11 GNDIO (power), 16 GNDINT (power), 24 GNDIO (power), 30 GNDIO (power), 36 GNDINT (power)
part A text: BANK A
part B text: BANK B

## EPM3032ATC44-4N
designator U?
MAX 3032A 3.3V CPLD, 34 IOs, 44-Pin Plastic TFQP, Commercial Temperature, Speed Grade 4, Pb-Free; Published: 4-Mar-2005; LatestRevisionDate: 13-Apr-2006; LatestRevisionNote: IPC-7351 Footprint Added.; DatasheetVersion: ver3.5, Jun-2006; PackageVersion: ver14.3, Jul-2006; PackageReference: TQFP44; Publisher: Altium Limited; PackageDescription: 44-Pin Plastic Thin Quad Flat Pack (TFQP44); Supplier 1: Digi-Key; Supplier Part Number 1: 544-1969-ND; Supplier 2: Farnell; Supplier Part Number 2: 1549414; Code_JEDEC: MS-026-ACB; ComponentLink1Description: Manufacturer Link; ComponentLink1URL: http://www.altera.com/products/devices/max3k/m3k-index.html; ComponentLink2Description: Datasheet; ComponentLink2URL: http://www.altera.com/literature/ds/m3000a.pdf; ComponentLink3Description: Packaging Specification; ComponentLink3URL: http://www.altera.com/literature/ds/dspkg.pdf
footprint TQFP44_N (Thin QFP, 44-Leads, Body 10x10mm, Pitch 0.8mm, IPC Medium Density)
footprint TQFP44_L (Thin QFP, 44-Leads, Body 10x10mm, Pitch 0.8mm, IPC High Density)
footprint TQFP44_M (Thin QFP, 44-Leads, Body 10x10mm, Pitch 0.8mm, IPC Low Density)
3D model EPM3032A-TQFP44 (44-Pin Plastic Thin Quad Flat Pack (TFQP44))
signal-integrity model max3ka (MAX 3000A)
part A pins: 2 IO (io), 3 IO (io), 5 IO (io), 6 IO (io), 8 IO (io), 10 IO (io), 12 IO (io), 13 IO (io), 14 IO (io), 15 IO (io), 42 IO (io), 43 IO (io), 44 IO (io)
part B pins: 18 IO (io), 19 IO (io), 20 IO (io), 21 IO (io), 22 IO (io), 23 IO (io), 25 IO (io), 27 IO (io), 28 IO (io), 31 IO (io), 33 IO (io), 34 IO (io), 35 IO (io)
part C pins: 37 INPUT/GCLK1 (in), 38 INPUT/OE1 (in), 39 INPUT/GCLRn (in), 40 INPUT/OE2/GCLK2 (in)
part D pins: 1 IO/TDI (io), 7 IO/TMS (io), 26 IO/TCK (io), 32 IO/TDO (io)
part E pins: 9 VCCIO(2.5V OR 3.3V) (power), 17 VCCINT(3.3V) (power), 29 VCCIO(2.5V OR 3.3V) (power), 41 VCCINT(3.3V) (power)
part F pins: 4 GNDIO (power), 11 GNDIO (power), 16 GNDINT (power), 24 GNDIO (power), 30 GNDIO (power), 36 GNDINT (power)
part A text: BANK A
part B text: BANK B

## EPM3032ATC44-7
designator U?
MAX 3032A 3.3V CPLD, 34 IOs, 44-Pin Plastic TFQP, Commercial Temperature, Speed Grade 7; Published: 23-Sep-2002; LatestRevisionDate: 13-Apr-2006; LatestRevisionNote: IPC-7351 Footprint Added.; DatasheetVersion: ver3.5, Jun-2006; PackageVersion: ver14.3, Jul-2006; PackageReference: TQFP44; Publisher: Altium Limited; PackageDescription: 44-Pin Plastic Thin Quad Flat Pack (TFQP44); Supplier 1: Digi-Key; Supplier Part Number 1: 544-1153-ND; Code_JEDEC: MS-026-ACB; ComponentLink1Description: Manufacturer Link; ComponentLink1URL: http://www.altera.com/products/devices/max3k/m3k-index.html; ComponentLink2Description: Datasheet; ComponentLink2URL: http://www.altera.com/literature/ds/m3000a.pdf; ComponentLink3Description: Packaging Specification; ComponentLink3URL: http://www.altera.com/literature/ds/dspkg.pdf
footprint TQFP44_N (Thin QFP, 44-Leads, Body 10x10mm, Pitch 0.8mm, IPC Medium Density)
footprint TQFP44_L (Thin QFP, 44-Leads, Body 10x10mm, Pitch 0.8mm, IPC High Density)
footprint TQFP44_M (Thin QFP, 44-Leads, Body 10x10mm, Pitch 0.8mm, IPC Low Density)
3D model EPM3032A-TQFP44 (44-Pin Plastic Thin Quad Flat Pack (TFQP44))
signal-integrity model max3ka (MAX 3000A)
part A pins: 2 IO (io), 3 IO (io), 5 IO (io), 6 IO (io), 8 IO (io), 10 IO (io), 12 IO (io), 13 IO (io), 14 IO (io), 15 IO (io), 42 IO (io), 43 IO (io), 44 IO (io)
part B pins: 18 IO (io), 19 IO (io), 20 IO (io), 21 IO (io), 22 IO (io), 23 IO (io), 25 IO (io), 27 IO (io), 28 IO (io), 31 IO (io), 33 IO (io), 34 IO (io), 35 IO (io)
part C pins: 37 INPUT/GCLK1 (in), 38 INPUT/OE1 (in), 39 INPUT/GCLRn (in), 40 INPUT/OE2/GCLK2 (in)
part D pins: 1 IO/TDI (io), 7 IO/TMS (io), 26 IO/TCK (io), 32 IO/TDO (io)
part E pins: 9 VCCIO(2.5V OR 3.3V) (power), 17 VCCINT(3.3V) (power), 29 VCCIO(2.5V OR 3.3V) (power), 41 VCCINT(3.3V) (power)
part F pins: 4 GNDIO (power), 11 GNDIO (power), 16 GNDINT (power), 24 GNDIO (power), 30 GNDIO (power), 36 GNDINT (power)
part A text: BANK A
part B text: BANK B

## EPM3032ATC44-7N
designator U?
MAX 3032A 3.3V CPLD, 34 IOs, 44-Pin Plastic TFQP, Commercial Temperature, Speed Grade 7, Pb-Free; Published: 4-Mar-2005; LatestRevisionDate: 13-Apr-2006; LatestRevisionNote: IPC-7351 Footprint Added.; DatasheetVersion: ver3.5, Jun-2006; PackageVersion: ver14.3, Jul-2006; PackageReference: TQFP44; Publisher: Altium Limited; PackageDescription: 44-Pin Plastic Thin Quad Flat Pack (TFQP44); Supplier 1: Digi-Key; Supplier Part Number 1: 544-1970-ND; Supplier 2: Farnell; Supplier Part Number 2: 1549415; Code_JEDEC: MS-026-ACB; ComponentLink1Description: Manufacturer Link; ComponentLink1URL: http://www.altera.com/products/devices/max3k/m3k-index.html; ComponentLink2Description: Datasheet; ComponentLink2URL: http://www.altera.com/literature/ds/m3000a.pdf; ComponentLink3Description: Packaging Specification; ComponentLink3URL: http://www.altera.com/literature/ds/dspkg.pdf
footprint TQFP44_N (Thin QFP, 44-Leads, Body 10x10mm, Pitch 0.8mm, IPC Medium Density)
footprint TQFP44_L (Thin QFP, 44-Leads, Body 10x10mm, Pitch 0.8mm, IPC High Density)
footprint TQFP44_M (Thin QFP, 44-Leads, Body 10x10mm, Pitch 0.8mm, IPC Low Density)
3D model EPM3032A-TQFP44 (44-Pin Plastic Thin Quad Flat Pack (TFQP44))
signal-integrity model max3ka (MAX 3000A)
part A pins: 2 IO (io), 3 IO (io), 5 IO (io), 6 IO (io), 8 IO (io), 10 IO (io), 12 IO (io), 13 IO (io), 14 IO (io), 15 IO (io), 42 IO (io), 43 IO (io), 44 IO (io)
part B pins: 18 IO (io), 19 IO (io), 20 IO (io), 21 IO (io), 22 IO (io), 23 IO (io), 25 IO (io), 27 IO (io), 28 IO (io), 31 IO (io), 33 IO (io), 34 IO (io), 35 IO (io)
part C pins: 37 INPUT/GCLK1 (in), 38 INPUT/OE1 (in), 39 INPUT/GCLRn (in), 40 INPUT/OE2/GCLK2 (in)
part D pins: 1 IO/TDI (io), 7 IO/TMS (io), 26 IO/TCK (io), 32 IO/TDO (io)
part E pins: 9 VCCIO(2.5V OR 3.3V) (power), 17 VCCINT(3.3V) (power), 29 VCCIO(2.5V OR 3.3V) (power), 41 VCCINT(3.3V) (power)
part F pins: 4 GNDIO (power), 11 GNDIO (power), 16 GNDINT (power), 24 GNDIO (power), 30 GNDIO (power), 36 GNDINT (power)
part A text: BANK A
part B text: BANK B

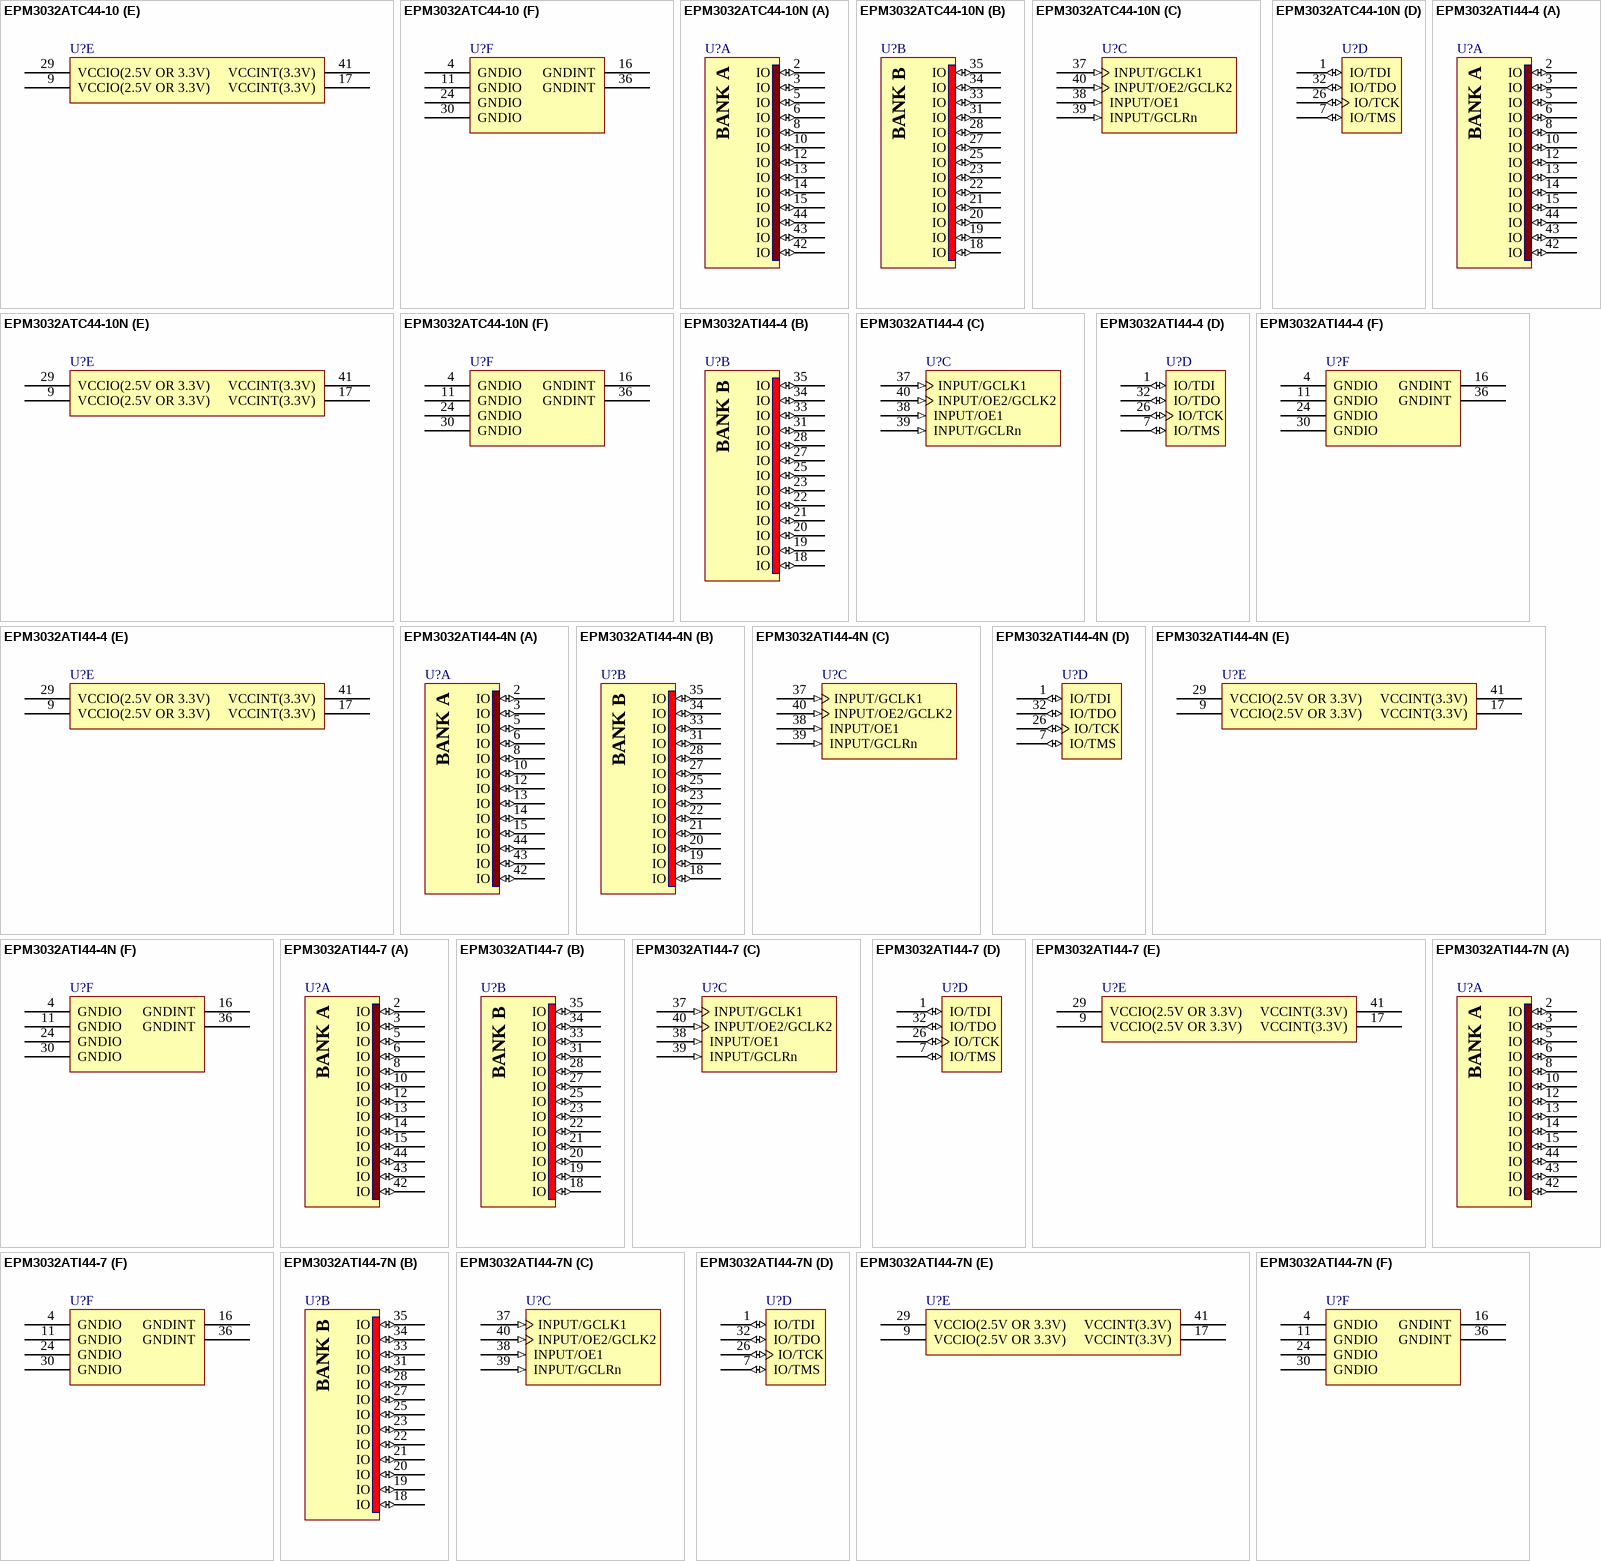
[diagram p3: symbols EPM3032ATC44-10 to EPM3032ATI44-7N]

## EPM3032ATC44-10
designator U?
MAX 3032A 3.3V CPLD, 34 IOs, 44-Pin Plastic TFQP, Commercial Temperature, Speed Grade 10; Published: 23-Sep-2002; LatestRevisionDate: 13-Apr-2006; LatestRevisionNote: IPC-7351 Footprint Added.; DatasheetVersion: ver3.5, Jun-2006; PackageVersion: ver14.3, Jul-2006; PackageReference: TQFP44; Publisher: Altium Limited; PackageDescription: 44-Pin Plastic Thin Quad Flat Pack (TFQP44); Supplier 1: Digi-Key; Supplier Part Number 1: 544-1151-ND; Supplier 2: Farnell; Supplier Part Number 2: 3851369; Code_JEDEC: MS-026-ACB; ComponentLink1Description: Manufacturer Link; ComponentLink1URL: http://www.altera.com/products/devices/max3k/m3k-index.html; ComponentLink2Description: Datasheet; ComponentLink2URL: http://www.altera.com/literature/ds/m3000a.pdf; ComponentLink3Description: Packaging Specification; ComponentLink3URL: http://www.altera.com/literature/ds/dspkg.pdf
footprint TQFP44_N (Thin QFP, 44-Leads, Body 10x10mm, Pitch 0.8mm, IPC Medium Density)
footprint TQFP44_L (Thin QFP, 44-Leads, Body 10x10mm, Pitch 0.8mm, IPC High Density)
footprint TQFP44_M (Thin QFP, 44-Leads, Body 10x10mm, Pitch 0.8mm, IPC Low Density)
3D model EPM3032A-TQFP44 (44-Pin Plastic Thin Quad Flat Pack (TFQP44))
signal-integrity model max3ka (MAX 3000A)
part A pins: 2 IO (io), 3 IO (io), 5 IO (io), 6 IO (io), 8 IO (io), 10 IO (io), 12 IO (io), 13 IO (io), 14 IO (io), 15 IO (io), 42 IO (io), 43 IO (io), 44 IO (io)
part B pins: 18 IO (io), 19 IO (io), 20 IO (io), 21 IO (io), 22 IO (io), 23 IO (io), 25 IO (io), 27 IO (io), 28 IO (io), 31 IO (io), 33 IO (io), 34 IO (io), 35 IO (io)
part C pins: 37 INPUT/GCLK1 (in), 38 INPUT/OE1 (in), 39 INPUT/GCLRn (in), 40 INPUT/OE2/GCLK2 (in)
part D pins: 1 IO/TDI (io), 7 IO/TMS (io), 26 IO/TCK (io), 32 IO/TDO (io)
part E pins: 9 VCCIO(2.5V OR 3.3V) (power), 17 VCCINT(3.3V) (power), 29 VCCIO(2.5V OR 3.3V) (power), 41 VCCINT(3.3V) (power)
part F pins: 4 GNDIO (power), 11 GNDIO (power), 16 GNDINT (power), 24 GNDIO (power), 30 GNDIO (power), 36 GNDINT (power)
part A text: BANK A
part B text: BANK B

## EPM3032ATC44-10N
designator U?
MAX 3032A 3.3V CPLD, 34 IOs, 44-Pin Plastic TFQP, Commercial Temperature, Speed Grade 10, Pb-Free; Published: 4-Mar-2005; LatestRevisionDate: 13-Apr-2006; LatestRevisionNote: IPC-7351 Footprint Added.; DatasheetVersion: ver3.5, Jun-2006; PackageVersion: ver14.3, Jul-2006; PackageReference: TQFP44; Publisher: Altium Limited; PackageDescription: 44-Pin Plastic Thin Quad Flat Pack (TFQP44); Supplier 1: Digi-Key; Supplier Part Number 1: 544-1968-ND; Supplier 2: Farnell; Supplier Part Number 2: 1637251; Code_JEDEC: MS-026-ACB; ComponentLink1Description: Manufacturer Link; ComponentLink1URL: http://www.altera.com/products/devices/max3k/m3k-index.html; ComponentLink2Description: Datasheet; ComponentLink2URL: http://www.altera.com/literature/ds/m3000a.pdf; ComponentLink3Description: Packaging Specification; ComponentLink3URL: http://www.altera.com/literature/ds/dspkg.pdf
footprint TQFP44_N (Thin QFP, 44-Leads, Body 10x10mm, Pitch 0.8mm, IPC Medium Density)
footprint TQFP44_L (Thin QFP, 44-Leads, Body 10x10mm, Pitch 0.8mm, IPC High Density)
footprint TQFP44_M (Thin QFP, 44-Leads, Body 10x10mm, Pitch 0.8mm, IPC Low Density)
3D model EPM3032A-TQFP44 (44-Pin Plastic Thin Quad Flat Pack (TFQP44))
signal-integrity model max3ka (MAX 3000A)
part A pins: 2 IO (io), 3 IO (io), 5 IO (io), 6 IO (io), 8 IO (io), 10 IO (io), 12 IO (io), 13 IO (io), 14 IO (io), 15 IO (io), 42 IO (io), 43 IO (io), 44 IO (io)
part B pins: 18 IO (io), 19 IO (io), 20 IO (io), 21 IO (io), 22 IO (io), 23 IO (io), 25 IO (io), 27 IO (io), 28 IO (io), 31 IO (io), 33 IO (io), 34 IO (io), 35 IO (io)
part C pins: 37 INPUT/GCLK1 (in), 38 INPUT/OE1 (in), 39 INPUT/GCLRn (in), 40 INPUT/OE2/GCLK2 (in)
part D pins: 1 IO/TDI (io), 7 IO/TMS (io), 26 IO/TCK (io), 32 IO/TDO (io)
part E pins: 9 VCCIO(2.5V OR 3.3V) (power), 17 VCCINT(3.3V) (power), 29 VCCIO(2.5V OR 3.3V) (power), 41 VCCINT(3.3V) (power)
part F pins: 4 GNDIO (power), 11 GNDIO (power), 16 GNDINT (power), 24 GNDIO (power), 30 GNDIO (power), 36 GNDINT (power)
part A text: BANK A
part B text: BANK B

## EPM3032ATI44-4
designator U?
MAX 3032A 3.3V CPLD, 34 IOs, 44-Pin Plastic TFQP, Industrial Temperature, Speed Grade 4; Published: 17-Sep-2003; LatestRevisionDate: 13-Apr-2006; LatestRevisionNote: IPC-7351 Footprint Added.; DatasheetVersion: ver3.5, Jun-2006; PackageVersion: ver14.3, Jul-2006; PackageReference: TQFP44; Publisher: Altium Limited; PackageDescription: 44-Pin Plastic Thin Quad Flat Pack (TFQP44); Code_JEDEC: MS-026-ACB; ComponentLink1Description: Manufacturer Link; ComponentLink1URL: http://www.altera.com/products/devices/max3k/m3k-index.html; ComponentLink2Description: Datasheet; ComponentLink2URL: http://www.altera.com/literature/ds/m3000a.pdf; ComponentLink3Description: Packaging Specification; ComponentLink3URL: http://www.altera.com/literature/ds/dspkg.pdf
footprint TQFP44_N (Thin QFP, 44-Leads, Body 10x10mm, Pitch 0.8mm, IPC Medium Density)
footprint TQFP44_L (Thin QFP, 44-Leads, Body 10x10mm, Pitch 0.8mm, IPC High Density)
footprint TQFP44_M (Thin QFP, 44-Leads, Body 10x10mm, Pitch 0.8mm, IPC Low Density)
3D model EPM3032A-TQFP44 (44-Pin Plastic Thin Quad Flat Pack (TFQP44))
signal-integrity model max3ka (MAX 3000A)
part A pins: 2 IO (io), 3 IO (io), 5 IO (io), 6 IO (io), 8 IO (io), 10 IO (io), 12 IO (io), 13 IO (io), 14 IO (io), 15 IO (io), 42 IO (io), 43 IO (io), 44 IO (io)
part B pins: 18 IO (io), 19 IO (io), 20 IO (io), 21 IO (io), 22 IO (io), 23 IO (io), 25 IO (io), 27 IO (io), 28 IO (io), 31 IO (io), 33 IO (io), 34 IO (io), 35 IO (io)
part C pins: 37 INPUT/GCLK1 (in), 38 INPUT/OE1 (in), 39 INPUT/GCLRn (in), 40 INPUT/OE2/GCLK2 (in)
part D pins: 1 IO/TDI (io), 7 IO/TMS (io), 26 IO/TCK (io), 32 IO/TDO (io)
part E pins: 9 VCCIO(2.5V OR 3.3V) (power), 17 VCCINT(3.3V) (power), 29 VCCIO(2.5V OR 3.3V) (power), 41 VCCINT(3.3V) (power)
part F pins: 4 GNDIO (power), 11 GNDIO (power), 16 GNDINT (power), 24 GNDIO (power), 30 GNDIO (power), 36 GNDINT (power)
part A text: BANK A
part B text: BANK B

## EPM3032ATI44-4N
designator U?
MAX 3032A 3.3V CPLD, 34 IOs, 44-Pin Plastic TFQP, Industrial Temperature, Speed Grade 4, Pb-Free; Published: 18-Aug-2005; LatestRevisionDate: 13-Apr-2006; LatestRevisionNote: IPC-7351 Footprint Added.; DatasheetVersion: ver3.5, Jun-2006; PackageVersion: ver14.3, Jul-2006; PackageReference: TQFP44; Publisher: Altium Limited; PackageDescription: 44-Pin Plastic Thin Quad Flat Pack (TFQP44); Code_JEDEC: MS-026-ACB; ComponentLink1Description: Manufacturer Link; ComponentLink1URL: http://www.altera.com/products/devices/max3k/m3k-index.html; ComponentLink2Description: Datasheet; ComponentLink2URL: http://www.altera.com/literature/ds/m3000a.pdf; ComponentLink3Description: Packaging Specification; ComponentLink3URL: http://www.altera.com/literature/ds/dspkg.pdf
footprint TQFP44_N (Thin QFP, 44-Leads, Body 10x10mm, Pitch 0.8mm, IPC Medium Density)
footprint TQFP44_L (Thin QFP, 44-Leads, Body 10x10mm, Pitch 0.8mm, IPC High Density)
footprint TQFP44_M (Thin QFP, 44-Leads, Body 10x10mm, Pitch 0.8mm, IPC Low Density)
3D model EPM3032A-TQFP44 (44-Pin Plastic Thin Quad Flat Pack (TFQP44))
signal-integrity model max3ka (MAX 3000A)
part A pins: 2 IO (io), 3 IO (io), 5 IO (io), 6 IO (io), 8 IO (io), 10 IO (io), 12 IO (io), 13 IO (io), 14 IO (io), 15 IO (io), 42 IO (io), 43 IO (io), 44 IO (io)
part B pins: 18 IO (io), 19 IO (io), 20 IO (io), 21 IO (io), 22 IO (io), 23 IO (io), 25 IO (io), 27 IO (io), 28 IO (io), 31 IO (io), 33 IO (io), 34 IO (io), 35 IO (io)
part C pins: 37 INPUT/GCLK1 (in), 38 INPUT/OE1 (in), 39 INPUT/GCLRn (in), 40 INPUT/OE2/GCLK2 (in)
part D pins: 1 IO/TDI (io), 7 IO/TMS (io), 26 IO/TCK (io), 32 IO/TDO (io)
part E pins: 9 VCCIO(2.5V OR 3.3V) (power), 17 VCCINT(3.3V) (power), 29 VCCIO(2.5V OR 3.3V) (power), 41 VCCINT(3.3V) (power)
part F pins: 4 GNDIO (power), 11 GNDIO (power), 16 GNDINT (power), 24 GNDIO (power), 30 GNDIO (power), 36 GNDINT (power)
part A text: BANK A
part B text: BANK B

## EPM3032ATI44-7
designator U?
MAX 3032A 3.3V CPLD, 34 IOs, 44-Pin Plastic TFQP, Industrial Temperature, Speed Grade 7; Published: 17-Sep-2003; LatestRevisionDate: 13-Apr-2006; LatestRevisionNote: IPC-7351 Footprint Added.; DatasheetVersion: ver3.5, Jun-2006; PackageVersion: ver14.3, Jul-2006; PackageReference: TQFP44; Publisher: Altium Limited; PackageDescription: 44-Pin Plastic Thin Quad Flat Pack (TFQP44); Code_JEDEC: MS-026-ACB; ComponentLink1Description: Manufacturer Link; ComponentLink1URL: http://www.altera.com/products/devices/max3k/m3k-index.html; ComponentLink2Description: Datasheet; ComponentLink2URL: http://www.altera.com/literature/ds/m3000a.pdf; ComponentLink3Description: Packaging Specification; ComponentLink3URL: http://www.altera.com/literature/ds/dspkg.pdf
footprint TQFP44_N (Thin QFP, 44-Leads, Body 10x10mm, Pitch 0.8mm, IPC Medium Density)
footprint TQFP44_L (Thin QFP, 44-Leads, Body 10x10mm, Pitch 0.8mm, IPC High Density)
footprint TQFP44_M (Thin QFP, 44-Leads, Body 10x10mm, Pitch 0.8mm, IPC Low Density)
3D model EPM3032A-TQFP44 (44-Pin Plastic Thin Quad Flat Pack (TFQP44))
signal-integrity model max3ka (MAX 3000A)
part A pins: 2 IO (io), 3 IO (io), 5 IO (io), 6 IO (io), 8 IO (io), 10 IO (io), 12 IO (io), 13 IO (io), 14 IO (io), 15 IO (io), 42 IO (io), 43 IO (io), 44 IO (io)
part B pins: 18 IO (io), 19 IO (io), 20 IO (io), 21 IO (io), 22 IO (io), 23 IO (io), 25 IO (io), 27 IO (io), 28 IO (io), 31 IO (io), 33 IO (io), 34 IO (io), 35 IO (io)
part C pins: 37 INPUT/GCLK1 (in), 38 INPUT/OE1 (in), 39 INPUT/GCLRn (in), 40 INPUT/OE2/GCLK2 (in)
part D pins: 1 IO/TDI (io), 7 IO/TMS (io), 26 IO/TCK (io), 32 IO/TDO (io)
part E pins: 9 VCCIO(2.5V OR 3.3V) (power), 17 VCCINT(3.3V) (power), 29 VCCIO(2.5V OR 3.3V) (power), 41 VCCINT(3.3V) (power)
part F pins: 4 GNDIO (power), 11 GNDIO (power), 16 GNDINT (power), 24 GNDIO (power), 30 GNDIO (power), 36 GNDINT (power)
part A text: BANK A
part B text: BANK B

## EPM3032ATI44-7N
designator U?
MAX 3032A 3.3V CPLD, 34 IOs, 44-Pin Plastic TFQP, Industrial Temperature, Speed Grade 7, Pb-Free; Published: 18-Aug-2005; LatestRevisionDate: 13-Apr-2006; LatestRevisionNote: IPC-7351 Footprint Added.; DatasheetVersion: ver3.5, Jun-2006; PackageVersion: ver14.3, Jul-2006; PackageReference: TQFP44; Publisher: Altium Limited; PackageDescription: 44-Pin Plastic Thin Quad Flat Pack (TFQP44); Code_JEDEC: MS-026-ACB; ComponentLink1Description: Manufacturer Link; ComponentLink1URL: http://www.altera.com/products/devices/max3k/m3k-index.html; ComponentLink2Description: Datasheet; ComponentLink2URL: http://www.altera.com/literature/ds/m3000a.pdf; ComponentLink3Description: Packaging Specification; ComponentLink3URL: http://www.altera.com/literature/ds/dspkg.pdf
footprint TQFP44_N (Thin QFP, 44-Leads, Body 10x10mm, Pitch 0.8mm, IPC Medium Density)
footprint TQFP44_L (Thin QFP, 44-Leads, Body 10x10mm, Pitch 0.8mm, IPC High Density)
footprint TQFP44_M (Thin QFP, 44-Leads, Body 10x10mm, Pitch 0.8mm, IPC Low Density)
3D model EPM3032A-TQFP44 (44-Pin Plastic Thin Quad Flat Pack (TFQP44))
signal-integrity model max3ka (MAX 3000A)
part A pins: 2 IO (io), 3 IO (io), 5 IO (io), 6 IO (io), 8 IO (io), 10 IO (io), 12 IO (io), 13 IO (io), 14 IO (io), 15 IO (io), 42 IO (io), 43 IO (io), 44 IO (io)
part B pins: 18 IO (io), 19 IO (io), 20 IO (io), 21 IO (io), 22 IO (io), 23 IO (io), 25 IO (io), 27 IO (io), 28 IO (io), 31 IO (io), 33 IO (io), 34 IO (io), 35 IO (io)
part C pins: 37 INPUT/GCLK1 (in), 38 INPUT/OE1 (in), 39 INPUT/GCLRn (in), 40 INPUT/OE2/GCLK2 (in)
part D pins: 1 IO/TDI (io), 7 IO/TMS (io), 26 IO/TCK (io), 32 IO/TDO (io)
part E pins: 9 VCCIO(2.5V OR 3.3V) (power), 17 VCCINT(3.3V) (power), 29 VCCIO(2.5V OR 3.3V) (power), 41 VCCINT(3.3V) (power)
part F pins: 4 GNDIO (power), 11 GNDIO (power), 16 GNDINT (power), 24 GNDIO (power), 30 GNDIO (power), 36 GNDINT (power)
part A text: BANK A
part B text: BANK B

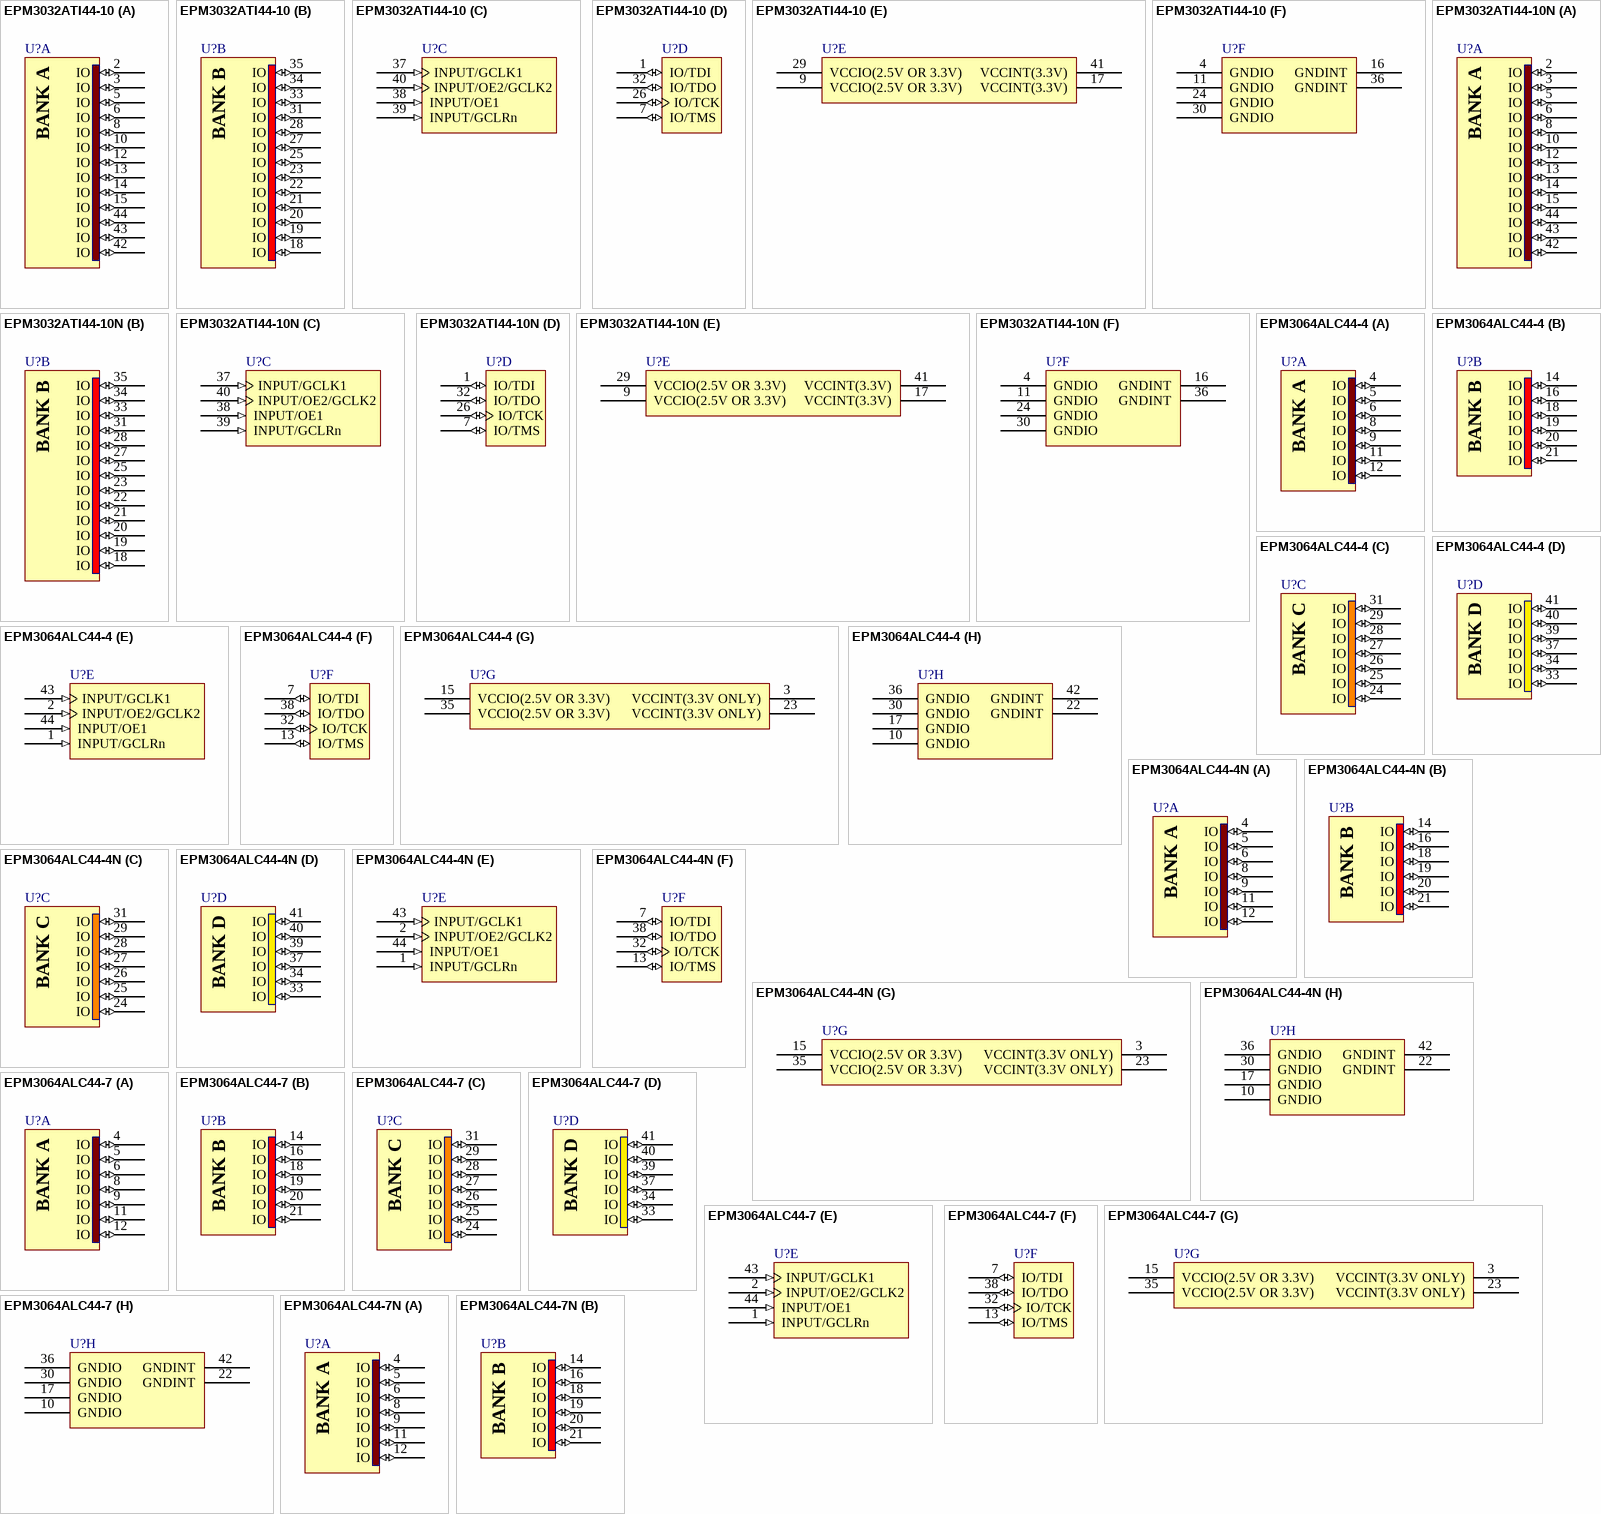
[diagram p4: symbols EPM3032ATI44-10 to EPM3064ALC44-7N]

## EPM3032ATI44-10
designator U?
MAX 3032A 3.3V CPLD, 34 IOs, 44-Pin Plastic TFQP, Industrial Temperature, Speed Grade 10; Published: 17-Sep-2003; LatestRevisionDate: 13-Apr-2006; LatestRevisionNote: IPC-7351 Footprint Added.; DatasheetVersion: ver3.5, Jun-2006; PackageVersion: ver14.3, Jul-2006; PackageReference: TQFP44; Publisher: Altium Limited; PackageDescription: 44-Pin Plastic Thin Quad Flat Pack (TFQP44); Supplier 1: Digi-Key; Supplier Part Number 1: 544-1154-ND; Code_JEDEC: MS-026-ACB; ComponentLink1Description: Manufacturer Link; ComponentLink1URL: http://www.altera.com/products/devices/max3k/m3k-index.html; ComponentLink2Description: Datasheet; ComponentLink2URL: http://www.altera.com/literature/ds/m3000a.pdf; ComponentLink3Description: Packaging Specification; ComponentLink3URL: http://www.altera.com/literature/ds/dspkg.pdf
footprint TQFP44_N (Thin QFP, 44-Leads, Body 10x10mm, Pitch 0.8mm, IPC Medium Density)
footprint TQFP44_L (Thin QFP, 44-Leads, Body 10x10mm, Pitch 0.8mm, IPC High Density)
footprint TQFP44_M (Thin QFP, 44-Leads, Body 10x10mm, Pitch 0.8mm, IPC Low Density)
3D model EPM3032A-TQFP44 (44-Pin Plastic Thin Quad Flat Pack (TFQP44))
signal-integrity model max3ka (MAX 3000A)
part A pins: 2 IO (io), 3 IO (io), 5 IO (io), 6 IO (io), 8 IO (io), 10 IO (io), 12 IO (io), 13 IO (io), 14 IO (io), 15 IO (io), 42 IO (io), 43 IO (io), 44 IO (io)
part B pins: 18 IO (io), 19 IO (io), 20 IO (io), 21 IO (io), 22 IO (io), 23 IO (io), 25 IO (io), 27 IO (io), 28 IO (io), 31 IO (io), 33 IO (io), 34 IO (io), 35 IO (io)
part C pins: 37 INPUT/GCLK1 (in), 38 INPUT/OE1 (in), 39 INPUT/GCLRn (in), 40 INPUT/OE2/GCLK2 (in)
part D pins: 1 IO/TDI (io), 7 IO/TMS (io), 26 IO/TCK (io), 32 IO/TDO (io)
part E pins: 9 VCCIO(2.5V OR 3.3V) (power), 17 VCCINT(3.3V) (power), 29 VCCIO(2.5V OR 3.3V) (power), 41 VCCINT(3.3V) (power)
part F pins: 4 GNDIO (power), 11 GNDIO (power), 16 GNDINT (power), 24 GNDIO (power), 30 GNDIO (power), 36 GNDINT (power)
part A text: BANK A
part B text: BANK B

## EPM3032ATI44-10N
designator U?
MAX 3032A 3.3V CPLD, 34 IOs, 44-Pin Plastic TFQP, Industrial Temperature, Speed Grade 10, Pb-Free; Published: 18-Aug-2005; LatestRevisionDate: 13-Apr-2006; LatestRevisionNote: IPC-7351 Footprint Added.; DatasheetVersion: ver3.5, Jun-2006; PackageVersion: ver14.3, Jul-2006; PackageReference: TQFP44; Publisher: Altium Limited; PackageDescription: 44-Pin Plastic Thin Quad Flat Pack (TFQP44); Supplier 1: Digi-Key; Supplier Part Number 1: 544-1971-ND; Supplier 2: Farnell; Supplier Part Number 2: 1549416; Code_JEDEC: MS-026-ACB; ComponentLink1Description: Manufacturer Link; ComponentLink1URL: http://www.altera.com/products/devices/max3k/m3k-index.html; ComponentLink2Description: Datasheet; ComponentLink2URL: http://www.altera.com/literature/ds/m3000a.pdf; ComponentLink3Description: Packaging Specification; ComponentLink3URL: http://www.altera.com/literature/ds/dspkg.pdf
footprint TQFP44_N (Thin QFP, 44-Leads, Body 10x10mm, Pitch 0.8mm, IPC Medium Density)
footprint TQFP44_L (Thin QFP, 44-Leads, Body 10x10mm, Pitch 0.8mm, IPC High Density)
footprint TQFP44_M (Thin QFP, 44-Leads, Body 10x10mm, Pitch 0.8mm, IPC Low Density)
3D model EPM3032A-TQFP44 (44-Pin Plastic Thin Quad Flat Pack (TFQP44))
signal-integrity model max3ka (MAX 3000A)
part A pins: 2 IO (io), 3 IO (io), 5 IO (io), 6 IO (io), 8 IO (io), 10 IO (io), 12 IO (io), 13 IO (io), 14 IO (io), 15 IO (io), 42 IO (io), 43 IO (io), 44 IO (io)
part B pins: 18 IO (io), 19 IO (io), 20 IO (io), 21 IO (io), 22 IO (io), 23 IO (io), 25 IO (io), 27 IO (io), 28 IO (io), 31 IO (io), 33 IO (io), 34 IO (io), 35 IO (io)
part C pins: 37 INPUT/GCLK1 (in), 38 INPUT/OE1 (in), 39 INPUT/GCLRn (in), 40 INPUT/OE2/GCLK2 (in)
part D pins: 1 IO/TDI (io), 7 IO/TMS (io), 26 IO/TCK (io), 32 IO/TDO (io)
part E pins: 9 VCCIO(2.5V OR 3.3V) (power), 17 VCCINT(3.3V) (power), 29 VCCIO(2.5V OR 3.3V) (power), 41 VCCINT(3.3V) (power)
part F pins: 4 GNDIO (power), 11 GNDIO (power), 16 GNDINT (power), 24 GNDIO (power), 30 GNDIO (power), 36 GNDINT (power)
part A text: BANK A
part B text: BANK B